# Altium schematic symbol library MCU_Module.SchLib: 52 symbols (part 2 of 3)
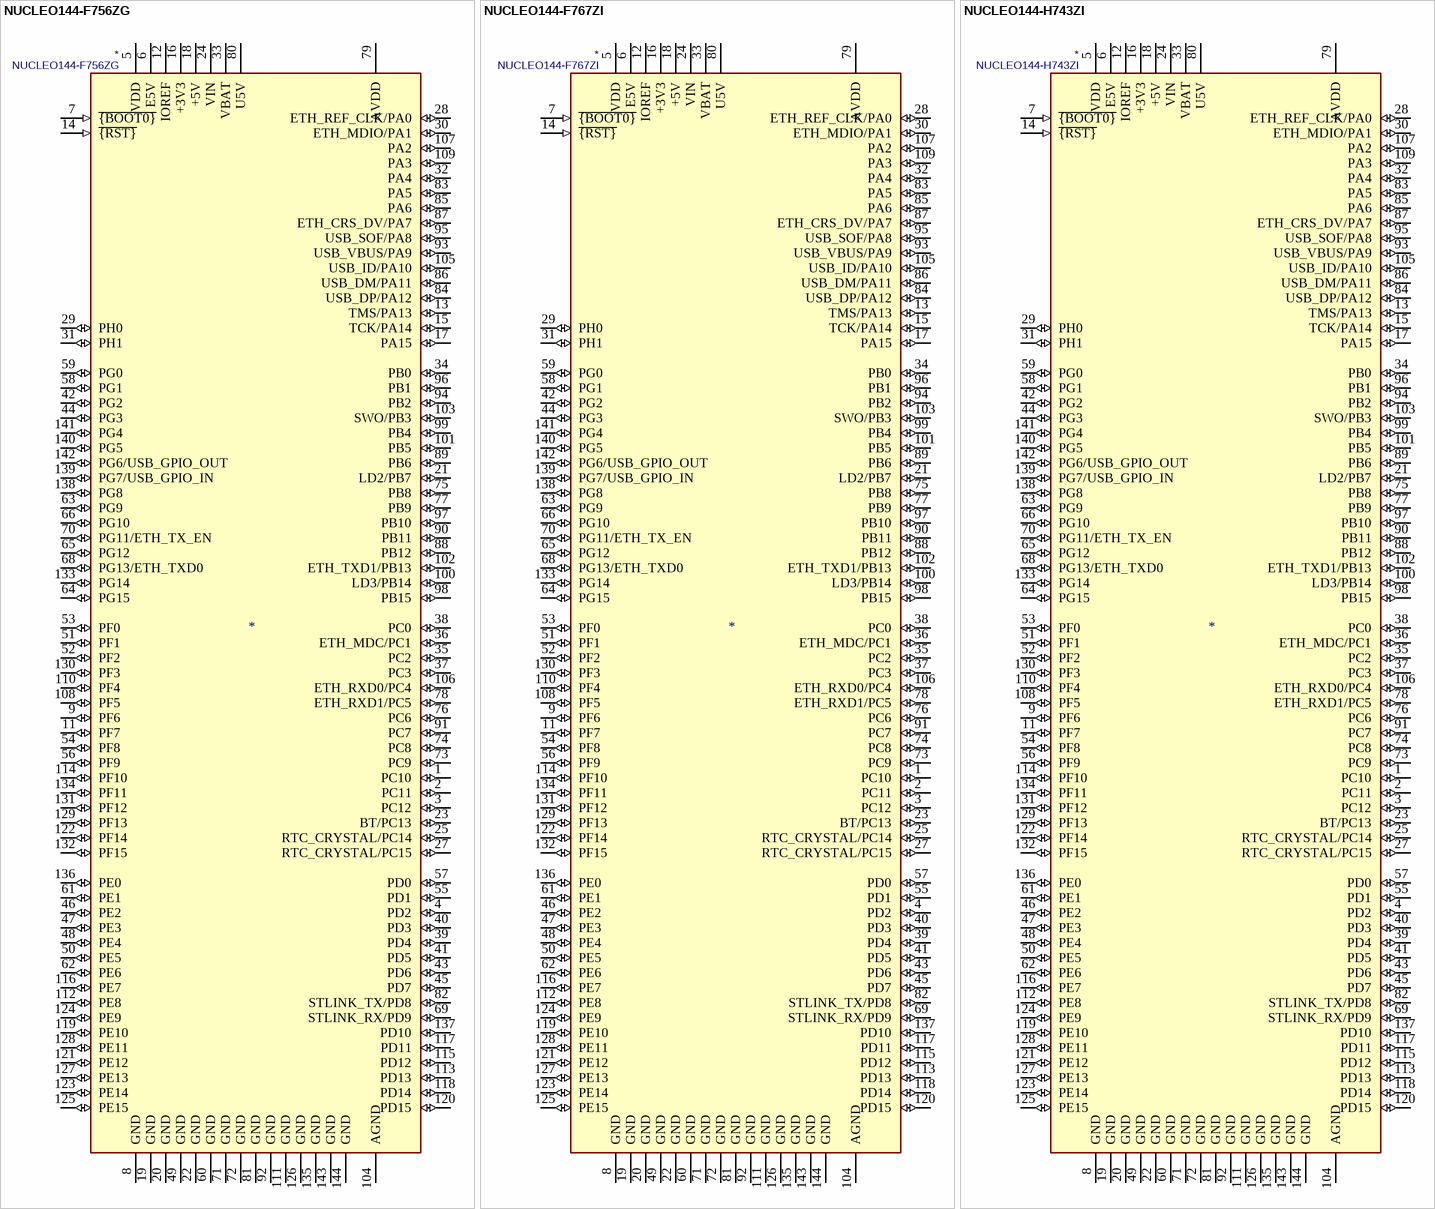
[diagram p10: symbols NUCLEO144-F756ZG to NUCLEO144-H743ZI]

## NUCLEO144-F767ZI
designator *  value NUCLEO144-F767ZI
ki_keywords: STM32 Nucleo ST; ki_description: Nucleo 144 Development Board with STM32F767ZIT6 MCU, 512kB RAM, 2Mb FLASH; ki_fp_filters: ST*Morpho*Connector*144*STLink*; Footprint: Module:ST_Morpho_Connector_144_STLink; Supplier: https://www.st.com/resource/en/user_manual/dm00244518-stm32-nucleo144-boards-stmicroelectronics.pdf
footprint ST_Morpho_Connector_144_STLink
pins: 1 PC10 (io), 2 PC11 (io), 3 PC12 (io), 4 PD2 (io), 5 VDD (power), 6 E5V (power), 7 ~{{BOOT0}} (in), 8 GND (power), 9 PF6 (io), 10 NC (in) hidden, 11 PF7 (io), 12 IOREF (power), 13 TMS/PA13 (io), 14 ~{{RST}} (in), 15 TCK/PA14 (io), 16 +3V3 (power), 17 PA15 (io), 18 +5V (power), 19 GND (power), 20 GND (power), 21 LD2/PB7 (io), 22 GND (power), 23 BT/PC13 (io), 24 VIN (power), 25 RTC_CRYSTAL/PC14 (io), 26 NC (in) hidden, 27 RTC_CRYSTAL/PC15 (io), 28 ETH_REF_CLK/PA0 (io), 29 PH0 (io), 30 ETH_MDIO/PA1 (io), 31 PH1 (io), 32 PA4 (io), 33 VBAT (power), 34 PB0 (io), 35 PC2 (io), 36 ETH_MDC/PC1 (io), 37 PC3 (io), 38 PC0 (io), 39 PD4 (io), 40 PD3 (io), 41 PD5 (io), 42 PG2 (io), 43 PD6 (io), 44 PG3 (io), 45 PD7 (io), 46 PE2 (io), 47 PE3 (io), 48 PE4 (io), 49 GND (power), 50 PE5 (io), 51 PF1 (io), 52 PF2 (io), 53 PF0 (io), 54 PF8 (io), 55 PD1 (io), 56 PF9 (io), 57 PD0 (io), 58 PG1 (io), 59 PG0 (io), 60 GND (power), 61 PE1 (io), 62 PE6 (io), 63 PG9 (io), 64 PG15 (io), 65 PG12 (io), 66 PG10 (io), 67 NC (in) hidden, 68 PG13/ETH_TXD0 (io), 69 STLINK_RX/PD9 (io), 70 PG11/ETH_TX_EN (io), 71 GND (power), 72 GND (power), 73 PC9 (io), 74 PC8 (io), 75 PB8 (io), 76 PC6 (io), 77 PB9 (io), 78 ETH_RXD1/PC5 (io), 79 AVDD (power), 80 U5V (power), 81 GND (power), 82 STLINK_TX/PD8 (io), 83 PA5 (io), 84 USB_DP/PA12 (io), 85 PA6 (io), 86 USB_DM/PA11 (io), 87 ETH_CRS_DV/PA7 (io), 88 PB12 (io), 89 PB6 (io), 90 PB11 (io), 91 PC7 (io), 92 GND (power), 93 USB_VBUS/PA9 (io), 94 PB2 (io), 95 USB_SOF/PA8 (io), 96 PB1 (io), 97 PB10 (io), 98 PB15 (io), 99 PB4 (io), 100 LD3/PB14 (io), 101 PB5 (io), 102 ETH_TXD1/PB13 (io), 103 SWO/PB3 (io), 104 AGND (power), 105 USB_ID/PA10 (io), 106 ETH_RXD0/PC4 (io), 107 PA2 (io), 108 PF5 (io), 109 PA3 (io), 110 PF4 (io), 111 GND (power), 112 PE8 (io), 113 PD13 (io), 114 PF10 (io), 115 PD12 (io), 116 PE7 (io), 117 PD11 (io), 118 PD14 (io), 119 PE10 (io), 120 PD15 (io), 121 PE12 (io), 122 PF14 (io), 123 PE14 (io), 124 PE9 (io), 125 PE15 (io), 126 GND (power), 127 PE13 (io), 128 PE11 (io), 129 PF13 (io), 130 PF3 (io), 131 PF12 (io), 132 PF15 (io), 133 PG14 (io), 134 PF11 (io), 135 GND (power), 136 PE0 (io), 137 PD10 (io), 138 PG8 (io), 139 PG7/USB_GPIO_IN (io), 140 PG5 (io), 141 PG4 (io), 142 PG6/USB_GPIO_OUT (io), 143 GND (power), 144 GND (power)

## NUCLEO144-H743ZI
designator *  value NUCLEO144-H743ZI
ki_keywords: STM32 Nucleo ST; ki_description: Nucleo 144 Development Board with STM32H743ZIT6 MCU, 1024kB RAM, 2Mb FLASH; ki_fp_filters: ST*Morpho*Connector*144*STLink*; Footprint: Module:ST_Morpho_Connector_144_STLink; Supplier: https://www.st.com/resource/en/user_manual/dm00244518-stm32-nucleo144-boards-stmicroelectronics.pdf
footprint ST_Morpho_Connector_144_STLink
pins: 1 PC10 (io), 2 PC11 (io), 3 PC12 (io), 4 PD2 (io), 5 VDD (power), 6 E5V (power), 7 ~{{BOOT0}} (in), 8 GND (power), 9 PF6 (io), 10 NC (in) hidden, 11 PF7 (io), 12 IOREF (power), 13 TMS/PA13 (io), 14 ~{{RST}} (in), 15 TCK/PA14 (io), 16 +3V3 (power), 17 PA15 (io), 18 +5V (power), 19 GND (power), 20 GND (power), 21 LD2/PB7 (io), 22 GND (power), 23 BT/PC13 (io), 24 VIN (power), 25 RTC_CRYSTAL/PC14 (io), 26 NC (in) hidden, 27 RTC_CRYSTAL/PC15 (io), 28 ETH_REF_CLK/PA0 (io), 29 PH0 (io), 30 ETH_MDIO/PA1 (io), 31 PH1 (io), 32 PA4 (io), 33 VBAT (power), 34 PB0 (io), 35 PC2 (io), 36 ETH_MDC/PC1 (io), 37 PC3 (io), 38 PC0 (io), 39 PD4 (io), 40 PD3 (io), 41 PD5 (io), 42 PG2 (io), 43 PD6 (io), 44 PG3 (io), 45 PD7 (io), 46 PE2 (io), 47 PE3 (io), 48 PE4 (io), 49 GND (power), 50 PE5 (io), 51 PF1 (io), 52 PF2 (io), 53 PF0 (io), 54 PF8 (io), 55 PD1 (io), 56 PF9 (io), 57 PD0 (io), 58 PG1 (io), 59 PG0 (io), 60 GND (power), 61 PE1 (io), 62 PE6 (io), 63 PG9 (io), 64 PG15 (io), 65 PG12 (io), 66 PG10 (io), 67 NC (in) hidden, 68 PG13/ETH_TXD0 (io), 69 STLINK_RX/PD9 (io), 70 PG11/ETH_TX_EN (io), 71 GND (power), 72 GND (power), 73 PC9 (io), 74 PC8 (io), 75 PB8 (io), 76 PC6 (io), 77 PB9 (io), 78 ETH_RXD1/PC5 (io), 79 AVDD (power), 80 U5V (power), 81 GND (power), 82 STLINK_TX/PD8 (io), 83 PA5 (io), 84 USB_DP/PA12 (io), 85 PA6 (io), 86 USB_DM/PA11 (io), 87 ETH_CRS_DV/PA7 (io), 88 PB12 (io), 89 PB6 (io), 90 PB11 (io), 91 PC7 (io), 92 GND (power), 93 USB_VBUS/PA9 (io), 94 PB2 (io), 95 USB_SOF/PA8 (io), 96 PB1 (io), 97 PB10 (io), 98 PB15 (io), 99 PB4 (io), 100 LD3/PB14 (io), 101 PB5 (io), 102 ETH_TXD1/PB13 (io), 103 SWO/PB3 (io), 104 AGND (power), 105 USB_ID/PA10 (io), 106 ETH_RXD0/PC4 (io), 107 PA2 (io), 108 PF5 (io), 109 PA3 (io), 110 PF4 (io), 111 GND (power), 112 PE8 (io), 113 PD13 (io), 114 PF10 (io), 115 PD12 (io), 116 PE7 (io), 117 PD11 (io), 118 PD14 (io), 119 PE10 (io), 120 PD15 (io), 121 PE12 (io), 122 PF14 (io), 123 PE14 (io), 124 PE9 (io), 125 PE15 (io), 126 GND (power), 127 PE13 (io), 128 PE11 (io), 129 PF13 (io), 130 PF3 (io), 131 PF12 (io), 132 PF15 (io), 133 PG14 (io), 134 PF11 (io), 135 GND (power), 136 PE0 (io), 137 PD10 (io), 138 PG8 (io), 139 PG7/USB_GPIO_IN (io), 140 PG5 (io), 141 PG4 (io), 142 PG6/USB_GPIO_OUT (io), 143 GND (power), 144 GND (power)

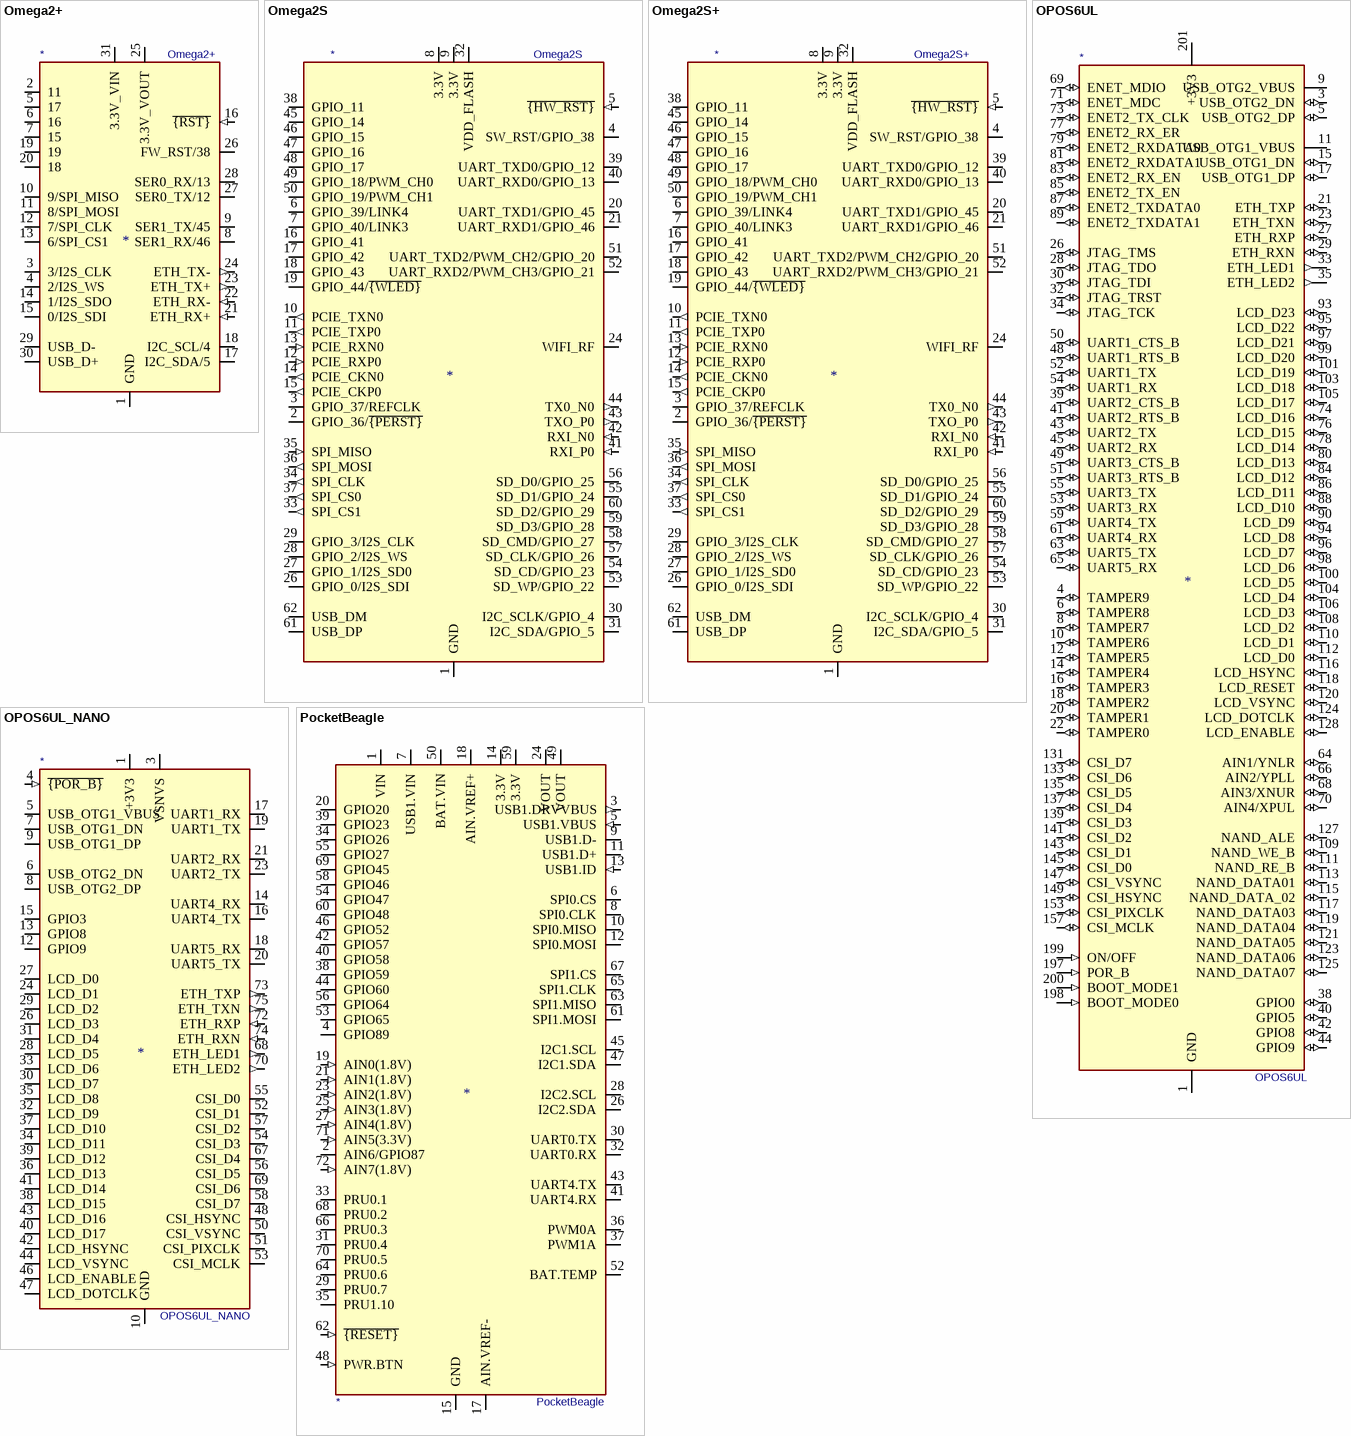
[diagram p6: symbols Omega2+ to PocketBeagle]

## Omega2+
designator *  value Omega2+
ki_keywords: onion omega module; ki_description: Iot Computer Module by Onion; ki_fp_filters: Onion*Omega2+*; Footprint: Module:Onion_Omega2+; Supplier: https://docs.onion.io/omega2-docs/omega2p.html
footprint Onion_Omega2+
pins: 1 GND (power), 2 11 (io), 3 3/I2S_CLK (io), 4 2/I2S_WS (io), 5 17 (io), 6 16 (io), 7 15 (io), 8 SER1_RX/46 (io), 9 SER1_TX/45 (io), 10 9/SPI_MISO (io), 11 8/SPI_MOSI (io), 12 7/SPI_CLK (io), 13 6/SPI_CS1 (io), 14 1/I2S_SDO (io), 15 0/I2S_SDI (io), 16 ~{{RST}} (in), 17 I2C_SDA/5 (io), 18 I2C_SCL/4 (io), 19 (io), 20 18 (io), 21 ETH_RX+ (in), 22 ETH_RX- (in), 23 ETH_TX+ (out), 24 ETH_TX- (out), 25 3.3V_VOUT (power), 26 FW_RST/38 (io), 27 SER0_TX/12 (io), 28 SER0_RX/13 (io), 29 USB_D- (io), 30 USB_D+ (io), 31 3.3V_VIN (power), 32 GND hidden

## Omega2S
designator *  value Omega2S
ki_keywords: onion omega module; ki_description: Iot Computer Module by Onion, 64MB RAM, 16MB FLASH; ki_fp_filters: Onion*Omega2S*; Footprint: Module:Onion_Omega2S; Supplier: https://github.com/OnionIoT/Omega2/raw/master/Documents/Omega2S%20Datasheet.pdf
footprint Onion_Omega2S
pins: 1 GND (power), 2 GPIO_36/~{{PERST}} (io), 3 GPIO_37/REFCLK (io), 4 SW_RST/GPIO_38 (io), 5 ~{{HW_RST}} (in), 6 GPIO_39/LINK4 (io), 7 GPIO_40/LINK3 (io), 8 3.3V (power), 9 3.3V (power), 10 PCIE_TXN0 (out), 11 PCIE_TXP0 (out), 12 PCIE_RXP0 (in), 13 PCIE_RXN0 (in), 14 PCIE_CKN0 (out), 15 PCIE_CKP0 (out), 16 GPIO_41 (io), 17 GPIO_42 (io), 18 GPIO_43 (io), 19 GPIO_44/~{{WLED}} (io), 20 UART_TXD1/GPIO_45 (io), 21 UART_RXD1/GPIO_46 (io), 22 GND hidden, 23 GND hidden, 24 WIFI_RF, 25 GND hidden, 26 GPIO_0/I2S_SDI (io), 27 GPIO_1/I2S_SD0 (io), 28 GPIO_2/I2S_WS (io), 29 GPIO_3/I2S_CLK (io), 30 I2C_SCLK/GPIO_4 (io), 31 I2C_SDA/GPIO_5 (io), 32 VDD_FLASH (power), 33 SPI_CS1 (out), 34 SPI_CLK (out), 35 SPI_MISO (in), 36 SPI_MOSI (out), 37 SPI_CS0 (out), 38 GPIO_11 (io), 39 UART_TXD0/GPIO_12 (io), 40 UART_RXD0/GPIO_13 (io), 41 RXI_P0 (in), 42 RXI_N0 (in), 43 TXO_P0 (out), 44 TX0_N0 (out), 45 GPIO_14 (io), 46 GPIO_15 (io), 47 GPIO_16 (io), 48 GPIO_17 (io), 49 GPIO_18/PWM_CH0 (io), 50 GPIO_19/PWM_CH1 (io), 51 UART_TXD2/PWM_CH2/GPIO_20 (io), 52 UART_RXD2/PWM_CH3/GPIO_21 (io), 53 SD_WP/GPIO_22 (io), 54 SD_CD/GPIO_23 (io), 55 SD_D1/GPIO_24 (io), 56 SD_D0/GPIO_25 (io), 57 SD_CLK/GPIO_26 (io), 58 SD_CMD/GPIO_27 (io), 59 SD_D3/GPIO_28 (io), 60 SD_D2/GPIO_29 (io), 61 USB_DP (io), 62 USB_DM (io), 63 GND hidden, 64 GND hidden

## Omega2S+
designator *  value Omega2S+
ki_keywords: onion omega module; ki_description: Iot Computer Module by Onion, 128MB RAM, 32MB FLASH; ki_fp_filters: Onion*Omega2S*; Footprint: Module:Onion_Omega2S; Supplier: https://github.com/OnionIoT/Omega2/raw/master/Documents/Omega2S%20Datasheet.pdf
footprint Onion_Omega2S
pins: 1 GND (power), 2 GPIO_36/~{{PERST}} (io), 3 GPIO_37/REFCLK (io), 4 SW_RST/GPIO_38 (io), 5 ~{{HW_RST}} (in), 6 GPIO_39/LINK4 (io), 7 GPIO_40/LINK3 (io), 8 3.3V (power), 9 3.3V (power), 10 PCIE_TXN0 (out), 11 PCIE_TXP0 (out), 12 PCIE_RXP0 (in), 13 PCIE_RXN0 (in), 14 PCIE_CKN0 (out), 15 PCIE_CKP0 (out), 16 GPIO_41 (io), 17 GPIO_42 (io), 18 GPIO_43 (io), 19 GPIO_44/~{{WLED}} (io), 20 UART_TXD1/GPIO_45 (io), 21 UART_RXD1/GPIO_46 (io), 22 GND hidden, 23 GND hidden, 24 WIFI_RF, 25 GND hidden, 26 GPIO_0/I2S_SDI (io), 27 GPIO_1/I2S_SD0 (io), 28 GPIO_2/I2S_WS (io), 29 GPIO_3/I2S_CLK (io), 30 I2C_SCLK/GPIO_4 (io), 31 I2C_SDA/GPIO_5 (io), 32 VDD_FLASH (power), 33 SPI_CS1 (out), 34 SPI_CLK (out), 35 SPI_MISO (in), 36 SPI_MOSI (out), 37 SPI_CS0 (out), 38 GPIO_11 (io), 39 UART_TXD0/GPIO_12 (io), 40 UART_RXD0/GPIO_13 (io), 41 RXI_P0 (in), 42 RXI_N0 (in), 43 TXO_P0 (out), 44 TX0_N0 (out), 45 GPIO_14 (io), 46 GPIO_15 (io), 47 GPIO_16 (io), 48 GPIO_17 (io), 49 GPIO_18/PWM_CH0 (io), 50 GPIO_19/PWM_CH1 (io), 51 UART_TXD2/PWM_CH2/GPIO_20 (io), 52 UART_RXD2/PWM_CH3/GPIO_21 (io), 53 SD_WP/GPIO_22 (io), 54 SD_CD/GPIO_23 (io), 55 SD_D1/GPIO_24 (io), 56 SD_D0/GPIO_25 (io), 57 SD_CLK/GPIO_26 (io), 58 SD_CMD/GPIO_27 (io), 59 SD_D3/GPIO_28 (io), 60 SD_D2/GPIO_29 (io), 61 USB_DP (io), 62 USB_DM (io), 63 GND hidden, 64 GND hidden

## OPOS6UL
designator *  value OPOS6UL
ki_keywords: armadeus systems opos6ul sbc som compute module; ki_description: Armadeus Systems i.MX6UL based single board computer, SODIMM; ki_fp_filters: *SODIMM*; Supplier: http://www.opossom.com/_downloads/opos6ul/documentation/datasheet_opos6ul.pdf
pins: 1 GND (power), 2 GND hidden, 3 USB_OTG2_DN (io), 4 TAMPER9 (io), 5 USB_OTG2_DP (io), 6 TAMPER8 (io), 7 GND hidden, 8 TAMPER7 (io), 9 USB_OTG2_VBUS (power), 10 TAMPER6 (io), 11 USB_OTG1_VBUS (power), 12 TAMPER5 (io), 13 GND hidden, 14 TAMPER4 (io), 15 USB_OTG1_DN (io), 16 TAMPER3 (io), 17 USB_OTG1_DP (io), 18 TAMPER2 (io), 19 GND hidden, 20 TAMPER1 (io), 21 ETH_TXP (io), 22 TAMPER0 (io), 23 ETH_TXN (io), 24 GND hidden, 25 GND hidden, 26 JTAG_TMS (io), 27 ETH_RXP (io), 28 JTAG_TDO (io), 29 ETH_RXN (io), 30 JTAG_TDI (io), 31 GND hidden, 32 JTAG_TRST (io), 33 ETH_LED1 (out), 34 JTAG_TCK (io), 35 ETH_LED2 (out), 36 GND hidden, 37 GND hidden, 38 GPIO0 (io), 39 UART2_CTS_B (io), 40 GPIO5 (io), 41 UART2_RTS_B (io), 42 GPIO8 (io), 43 UART2_TX (io), 44 GPIO9 (io), 45 UART2_RX (io), 46 GND hidden, 47 GND hidden, 48 UART1_RTS_B (io), 49 UART3_CTS_B (io), 50 UART1_CTS_B (io), 51 UART3_RTS_B (io), 52 UART1_TX (io), 53 UART3_RX (io), 54 UART1_RX (io), 55 UART3_TX (io), 56 GND hidden, 57 GND hidden, 58 NC (in) hidden, 59 UART4_TX (io), 60 NC (in) hidden, 61 UART4_RX (io), 62 GND hidden, 63 UART5_TX (io), 64 AIN1/YNLR (io), 65 UART5_RX (io), 66 AIN2/YPLL (io), 67 GND hidden, 68 AIN3/XNUR (io), 69 ENET_MDIO (io), 70 AIN4/XPUL (io), 71 ENET_MDC (io), 72 GND hidden, 73 ENET2_TX_CLK (io), 74 LCD_D16 (io), 75 GND hidden, 76 LCD_D15 (io), 77 ENET2_RX_ER (io), 78 LCD_D14 (io), 79 ENET2_RXDATA0 (io), 80 LCD_D13 (io), 81 ENET2_RXDATA1 (io), 82 GND hidden, 83 ENET2_RX_EN (io), 84 LCD_D12 (io), 85 ENET2_TX_EN (io), 86 LCD_D11 (io), 87 ENET2_TXDATA0 (io), 88 LCD_D10 (io), 89 ENET2_TXDATA1 (io), 90 LCD_D9 (io), 91 GND hidden, 92 GND hidden, 93 LCD_D23 (io), 94 LCD_D8 (io), 95 LCD_D22 (io), 96 LCD_D7 (io), 97 LCD_D21 (io), 98 LCD_D6 (io), 99 LCD_D20 (io), 100 LCD_D5 (io), 101 LCD_D19 (io), 102 GND hidden, 103 LCD_D18 (io), 104 LCD_D4 (io), 105 LCD_D17 (io), 106 LCD_D3 (io), 107 GND hidden, 108 LCD_D2 (io), 109 NAND_WE_B (io), 110 LCD_D1 (io), 111 NAND_RE_B (io), 112 LCD_D0 (io), 113 NAND_DATA01 (io), 114 GND hidden, 115 NAND_DATA_02 (io), 116 LCD_HSYNC (io), 117 NAND_DATA03 (io), 118 LCD_RESET (io), 119 NAND_DATA04 (io), 120 LCD_VSYNC (io), 121 NAND_DATA05 (io), 122 GND hidden, 123 NAND_DATA06 (io), 124 LCD_DOTCLK (io), 125 NAND_DATA07 (io), 126 GND hidden, 127 NAND_ALE (io), 128 LCD_ENABLE (io), 129 GND hidden, 130 NC (in) hidden, 131 CSI_D7 (io), 132 NC (in) hidden, 133 CSI_D6 (io), 134 NC (in) hidden, 135 CSI_D5 (io), 136 NC (in) hidden, 137 CSI_D4 (io), 138 NC (in) hidden, 139 CSI_D3 (io), 140 NC (in) hidden, 141 CSI_D2 (io), 142 NC (in) hidden, 143 CSI_D1 (io), 144 NC (in) hidden, 145 CSI_D0 (io), 146 NC (in) hidden, 147 CSI_VSYNC (io), 148 NC (in) hidden, 149 CSI_HSYNC (io), 150 NC (in) hidden, 151 GND hidden, 152 NC (in) hidden, 153 CSI_PIXCLK (io), 154 NC (in) hidden, 155 GND hidden, 156 NC (in) hidden, 157 CSI_MCLK (io), 158 NC (in) hidden, 159 GND hidden, 160 NC (in) hidden, 161 NC (in) hidden, 162 NC (in) hidden, 163 NC (in) hidden, 164 NC (in) hidden, 165 NC (in) hidden, 166 NC (in) hidden, 167 NC (in) hidden, 168 NC (in) hidden, 169 NC (in) hidden, 170 NC (in) hidden, 171 NC (in) hidden, 172 NC (in) hidden, 173 NC (in) hidden, 174 NC (in) hidden, 175 NC (in) hidden, 176 NC (in) hidden, 177 NC (in) hidden, 178 NC (in) hidden, 179 NC (in) hidden, 180 NC (in) hidden, 181 NC (in) hidden, 182 NC (in) hidden, 183 NC (in) hidden, 184 NC (in) hidden, 185 NC (in) hidden, 186 NC (in) hidden, 187 NC (in) hidden, 188 NC (in) hidden, 189 NC (in) hidden, 190 NC (in) hidden, 191 NC (in) hidden, 192 NC (in) hidden, 193 NC (in) hidden, 194 NC (in) hidden, 195 NC (in) hidden, 196 NC (in) hidden, 197 POR_B (in), 198 BOOT_MODE0 (in), 199 ON/OFF (in), 200 BOOT_MODE1 (in), 201 +3V3 (power), 202 +3V3 hidden, 203 +3V3 hidden, 204 +3V3 hidden

## OPOS6UL_NANO
designator *  value OPOS6UL_NANO
ki_keywords: opos6ul compute module; ki_description: NXP i.MX6ULL/i.MX6UL, 256 or 512 MB RAM, industrial SoM computer, M.2M (NGFF); ki_fp_filters: *M.2*; Supplier: http://www.opossom.com/_downloads/opos6ul_nano/datasheet_opos6ul_nano.pdf
pins: 1 +3V3 (power), 2 +3V3 hidden, 3 VSNVS (power), 4 ~{{POR_B}} (in), 5 USB_OTG1_VBUS (power), 6 USB_OTG2_DN (io), 7 USB_OTG1_DN (io), 8 USB_OTG2_DP (io), 9 USB_OTG1_DP (io), 10 GND (power), 11 GND hidden, 12 GPIO9 (io), 13 GPIO8 (io), 14 UART4_RX (io), 15 GPIO3 (io), 16 UART4_TX (io), 17 UART1_RX (io), 18 UART5_RX (io), 19 UART1_TX (io), 20 UART5_TX (io), 21 UART2_RX (io), 22 GND hidden, 23 UART2_TX (io), 24 LCD_D1 (io), 25 GND hidden, 26 LCD_D3 (io), 27 LCD_D0 (io), 28 LCD_D5 (io), 29 LCD_D2 (io), 30 LCD_D7 (io), 31 LCD_D4 (io), 32 LCD_D9 (io), 33 LCD_D6 (io), 34 LCD_D11 (io), 35 LCD_D8 (io), 36 LCD_D13 (io), 37 LCD_D10 (io), 38 LCD_D15 (io), 39 LCD_D12 (io), 40 LCD_D17 (io), 41 LCD_D14 (io), 42 LCD_HSYNC (io), 43 LCD_D16 (io), 44 LCD_VSYNC (io), 45 GND hidden, 46 LCD_ENABLE (io), 47 LCD_DOTCLK (io), 48 CSI_HSYNC (io), 49 GND hidden, 50 CSI_VSYNC (io), 51 CSI_PIXCLK (io), 52 CSI_D1 (io), 53 CSI_MCLK (io), 54 CSI_D3 (io), 55 CSI_D0 (io), 56 CSI_D5 (io), 57 CSI_D2 (io), 58 CSI_D7 (io), 67 CSI_D4 (io), 68 ETH_LED1 (out), 69 CSI_D6 (io), 70 ETH_LED2 (out), 71 GND hidden, 72 ETH_RXP (in), 73 ETH_TXP (out), 74 ETH_RXN (in), 75 ETH_TXN (out)

## PocketBeagle
designator *  value PocketBeagle
ki_keywords: beagleboard pocketbeagle; ki_description: Singleboard computer with ARM Cortex-A8 1GHz, 512MB RAM; ki_fp_filters: BeagleBoard*PocketBeagle*; Footprint: Module:BeagleBoard_PocketBeagle; Supplier: https://github.com/beagleboard/pocketbeagle/wiki/System-Reference-Manual
footprint BeagleBoard_PocketBeagle
pins: 1 VIN (power), 2 AIN6/GPIO87 (io), 3 USB1.DRVVBUS (out), 4 GPIO89 (io), 5 USB1.VBUS (in), 6 SPI0.CS (io), 7 USB1.VIN (power), 8 SPI0.CLK (io), 9 USB1.D- (io), 10 SPI0.MISO (io), 11 USB1.D+ (io), 12 SPI0.MOSI (io), 13 USB1.ID (in), 14 3.3V (power), 15 GND (power), 16 GND hidden, 17 AIN.VREF- (power), 18 AIN.VREF+ (power), 19 AIN0(1.8V) (in), 20 GPIO20 (io), 21 AIN1(1.8V) (in), 22 GND hidden, 23 AIN2(1.8V) (in), 24 VOUT (power), 25 AIN3(1.8V) (in), 26 I2C2.SDA (io), 27 AIN4(1.8V) (in), 28 I2C2.SCL (io), 29 PRU0.7 (io), 30 UART0.TX (io), 31 PRU0.4 (io), 32 UART0.RX (io), 33 PRU0.1 (io), 34 GPIO26 (io), 35 PRU1.10 (io), 36 PWM0A (io), 37 PWM1A (io), 38 GPIO59 (io), 39 GPIO23 (io), 40 GPIO58 (io), 41 UART4.RX (io), 42 GPIO57 (io), 43 UART4.TX (io), 44 GPIO60 (io), 45 I2C1.SCL (io), 46 GPIO52 (io), 47 I2C1.SDA (io), 48 PWR.BTN (in), 49 VOUT (power), 50 BAT.VIN (power), 51 GND hidden, 52 BAT.TEMP, 53 GPIO65 (io), 54 GPIO47 (io), 55 GPIO27 (io), 56 GPIO64 (io), 57 GND hidden, 58 GPIO46 (io), 59 3.3V (power), 60 GPIO48 (io), 61 SPI1.MOSI (io), 62 ~{{RESET}} (in), 63 SPI1.MISO (io), 64 PRU0.6 (io), 65 SPI1.CLK (io), 66 PRU0.3 (io), 67 SPI1.CS (io), 68 PRU0.2 (io), 69 GPIO45 (io), 70 PRU0.5 (io), 71 AIN5(3.3V) (in), 72 AIN7(1.8V) (in)

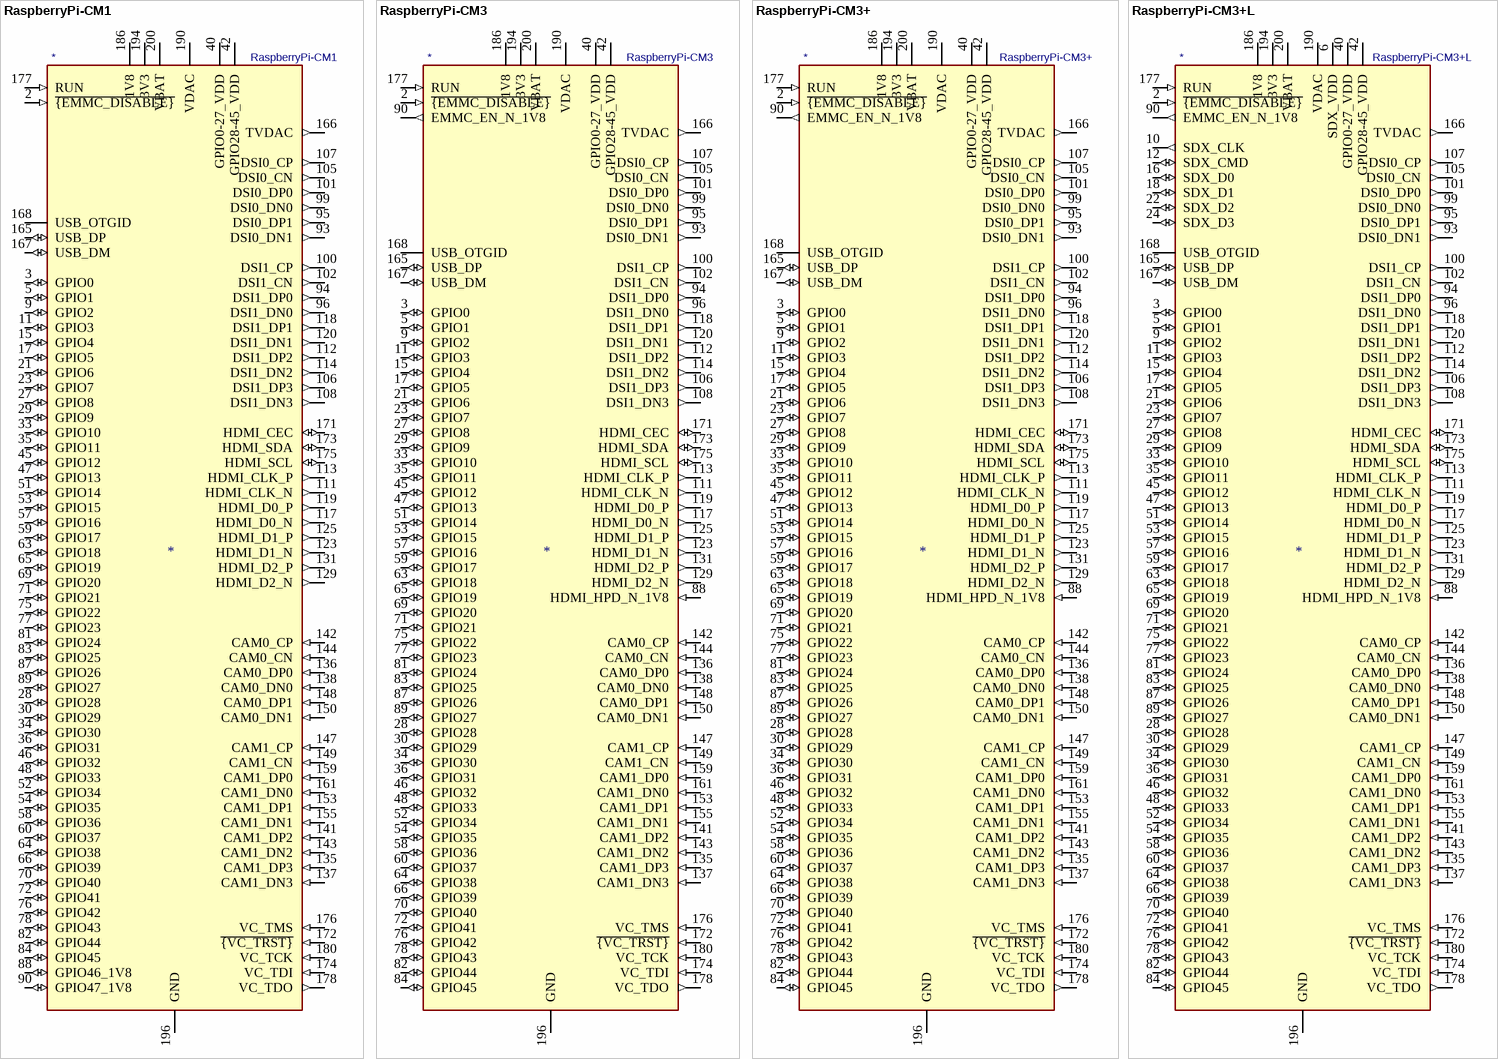
[diagram p7: symbols RaspberryPi-CM1 to RaspberryPi-CM3+L]

## RaspberryPi-CM1
designator *  value RaspberryPi-CM1
ki_keywords: raspberry pi compute module; ki_description: BCM2835 Broadcom 700 MZ single core, 512 MB RAM 4 GB eMMC, industrial SoM computer; ki_fp_filters: *SODIMM*; Supplier: https://www.raspberrypi.org/documentation/hardware/computemodule/datasheets/rpi_DATA_CM_1p0.pdf
pins: 1 GND hidden, 2 ~{{EMMC_DISABLE}} (in), 3 GPIO0 (io), 4 NC (in) hidden, 5 GPIO1 (io), 6 NC (in) hidden, 7 GND hidden, 8 NC (in) hidden, 9 GPIO2 (io), 10 NC (in) hidden, 11 GPIO3 (io), 12 NC (in) hidden, 13 GND hidden, 14 NC (in) hidden, 15 GPIO4 (io), 16 NC (in) hidden, 17 GPIO5 (io), 18 NC (in) hidden, 19 GND hidden, 20 NC (in) hidden, 21 GPIO6 (io), 22 NC (in) hidden, 23 GPIO7 (io), 24 NC (in) hidden, 25 GND hidden, 26 GND hidden, 27 GPIO8 (io), 28 GPIO28 (io), 29 GPIO9 (io), 30 GPIO29 (io), 31 GND hidden, 32 GND hidden, 33 GPIO10 (io), 34 GPIO30 (io), 35 GPIO11 (io), 36 GPIO31 (io), 37 GND hidden, 38 GND hidden, 39 GPIO0-27_VDD hidden, 40 GPIO0-27_VDD (power), 41 GPIO28-45_VDD hidden, 42 GPIO28-45_VDD (power), 43 GND hidden, 44 GND hidden, 45 GPIO12 (io), 46 GPIO32 (io), 47 GPIO13 (io), 48 GPIO33 (io), 49 GND hidden, 50 GND hidden, 51 GPIO14 (io), 52 GPIO34 (io), 53 GPIO15 (io), 54 GPIO35 (io), 55 GND hidden, 56 GND hidden, 57 GPIO16 (io), 58 GPIO36 (io), 59 GPIO17 (io), 60 GPIO37 (io), 61 GND hidden, 62 GND hidden, 63 GPIO18 (io), 64 GPIO38 (io), 65 GPIO19 (io), 66 GPIO39 (io), 67 GND hidden, 68 GND hidden, 69 GPIO20 (io), 70 GPIO40 (io), 71 GPIO21 (io), 72 GPIO41 (io), 73 GND hidden, 74 GND hidden, 75 GPIO22 (io), 76 GPIO42 (io), 77 GPIO23 (io), 78 GPIO43 (io), 79 GND hidden, 80 GND hidden, 81 GPIO24 (io), 82 GPIO44 (io), 83 GPIO25 (io), 84 GPIO45 (io), 85 GND hidden, 86 GND hidden, 87 GPIO26 (io), 88 GPIO46_1V8 (io), 89 GPIO27 (io), 90 GPIO47_1V8 (io), 91 GND hidden, 92 GND hidden, 93 DSI0_DN1 (out), 94 DSI1_DP0 (out), 95 DSI0_DP1 (out), 96 DSI1_DN0 (out), 97 GND hidden, 98 GND hidden, 99 DSI0_DN0 (out), 100 DSI1_CP (out), 101 DSI0_DP0 (out), 102 DSI1_CN (out), 103 GND hidden, 104 GND hidden, 105 DSI0_CN (out), 106 DSI1_DP3 (out), 107 DSI0_CP (out), 108 DSI1_DN3 (out), 109 GND hidden, 110 GND hidden, 111 HDMI_CLK_N (out), 112 DSI1_DP2 (out), 113 HDMI_CLK_P (out), 114 DSI1_DN2 (out), 115 GND hidden, 116 GND hidden, 117 HDMI_D0_N (out), 118 DSI1_DP1 (out), 119 HDMI_D0_P (out), 120 DSI1_DN1 (out), 121 GND hidden, 122 GND hidden, 123 HDMI_D1_N (out), 124 NC (in) hidden, 125 HDMI_D1_P (out), 126 NC (in) hidden, 127 GND hidden, 128 NC (in) hidden, 129 HDMI_D2_N (out), 130 NC (in) hidden, 131 HDMI_D2_P (out), 132 NC (in) hidden, 133 GND hidden, 134 GND hidden, 135 CAM1_DP3 (in), 136 CAM0_DP0 (in), 137 CAM1_DN3 (in), 138 CAM0_DN0 (in), 139 GND hidden, 140 GND hidden, 141 CAM1_DP2 (in), 142 CAM0_CP (in), 143 CAM1_DN2 (in), 144 CAM0_CN (in), 145 GND hidden, 146 GND hidden, 147 CAM1_CP (in), 148 CAM0_DP1 (in), 149 CAM1_CN (in), 150 CAM0_DN1 (in), 151 GND hidden, 152 GND hidden, 153 CAM1_DP1 (in), 154 NC (in) hidden, 155 CAM1_DN1 (in), 156 NC (in) hidden, 157 GND hidden, 158 NC (in) hidden, 159 CAM1_DP0 (in), 160 NC (in) hidden, 161 CAM1_DN0 (in), 162 NC (in) hidden, 163 GND hidden, 164 GND hidden, 165 USB_DP (io), 166 TVDAC (out), 167 USB_DM (io), 168 USB_OTGID, 169 GND hidden, 170 GND hidden, 171 HDMI_CEC (io), 172 ~{{VC_TRST}} (in), 173 HDMI_SDA (io), 174 VC_TDI (in), 175 HDMI_SCL (io), 176 VC_TMS (in), 177 RUN (in), 178 VC_TDO (out), 179 VDD_CORE_(DO_NOT_CONNECT) (in) hidden, 180 VC_TCK (in), 181 GND hidden, 182 GND hidden, 183 1V8 hidden, 184 1V8 hidden, 185 1V8 hidden, 186 1V8 (power), 187 GND hidden, 188 GND hidden, 189 VDAC hidden, 190 VDAC (power), 191 3V3 hidden, 192 3V3 hidden, 193 3V3 hidden, 194 3V3 (power), 195 GND hidden, 196 GND (power), 197 VBAT hidden, 198 VBAT hidden, 199 VBAT hidden, 200 VBAT (power)

## RaspberryPi-CM3
designator *  value RaspberryPi-CM3
ki_keywords: raspberry pi compute module; ki_description: BCM2837 Broadcom 1.2 GHZ quad core, 1 GB RAM 4 GB eMMC,  industrial SoM computer; ki_fp_filters: *SODIMM*; Supplier: https://www.raspberrypi.org/documentation/hardware/computemodule/datasheets/rpi_DATA_CM_1p0.pdf
pins: 1 GND hidden, 2 ~{{EMMC_DISABLE}} (in), 3 GPIO0 (io), 4 NC (in) hidden, 5 GPIO1 (io), 6 NC (in) hidden, 7 GND hidden, 8 GND hidden, 9 GPIO2 (io), 10 NC (in) hidden, 11 GPIO3 (io), 12 NC (in) hidden, 13 GND hidden, 14 GND hidden, 15 GPIO4 (io), 16 NC (in) hidden, 17 GPIO5 (io), 18 NC (in) hidden, 19 GND hidden, 20 GND hidden, 21 GPIO6 (io), 22 NC (in) hidden, 23 GPIO7 (io), 24 NC (in) hidden, 25 GND hidden, 26 GND hidden, 27 GPIO8 (io), 28 GPIO28 (io), 29 GPIO9 (io), 30 GPIO29 (io), 31 GND hidden, 32 GND hidden, 33 GPIO10 (io), 34 GPIO30 (io), 35 GPIO11 (io), 36 GPIO31 (io), 37 GND hidden, 38 GND hidden, 39 GPIO0-27_VDD hidden, 40 GPIO0-27_VDD (power), 41 GPIO28-45_VDD hidden, 42 GPIO28-45_VDD (power), 43 GND hidden, 44 GND hidden, 45 GPIO12 (io), 46 GPIO32 (io), 47 GPIO13 (io), 48 GPIO33 (io), 49 GND hidden, 50 GND hidden, 51 GPIO14 (io), 52 GPIO34 (io), 53 GPIO15 (io), 54 GPIO35 (io), 55 GND hidden, 56 GND hidden, 57 GPIO16 (io), 58 GPIO36 (io), 59 GPIO17 (io), 60 GPIO37 (io), 61 GND hidden, 62 GND hidden, 63 GPIO18 (io), 64 GPIO38 (io), 65 GPIO19 (io), 66 GPIO39 (io), 67 GND hidden, 68 GND hidden, 69 GPIO20 (io), 70 GPIO40 (io), 71 GPIO21 (io), 72 GPIO41 (io), 73 GND hidden, 74 GND hidden, 75 GPIO22 (io), 76 GPIO42 (io), 77 GPIO23 (io), 78 GPIO43 (io), 79 GND hidden, 80 GND hidden, 81 GPIO24 (io), 82 GPIO44 (io), 83 GPIO25 (io), 84 GPIO45 (io), 85 GND hidden, 86 GND hidden, 87 GPIO26 (io), 88 HDMI_HPD_N_1V8 (in), 89 GPIO27 (io), 90 EMMC_EN_N_1V8 (out), 91 GND hidden, 92 GND hidden, 93 DSI0_DN1 (out), 94 DSI1_DP0 (out), 95 DSI0_DP1 (out), 96 DSI1_DN0 (out), 97 GND hidden, 98 GND hidden, 99 DSI0_DN0 (out), 100 DSI1_CP (out), 101 DSI0_DP0 (out), 102 DSI1_CN (out), 103 GND hidden, 104 GND hidden, 105 DSI0_CN (out), 106 DSI1_DP3 (out), 107 DSI0_CP (out), 108 DSI1_DN3 (out), 109 GND hidden, 110 GND hidden, 111 HDMI_CLK_N (out), 112 DSI1_DP2 (out), 113 HDMI_CLK_P (out), 114 DSI1_DN2 (out), 115 GND hidden, 116 GND hidden, 117 HDMI_D0_N (out), 118 DSI1_DP1 (out), 119 HDMI_D0_P (out), 120 DSI1_DN1 (out), 121 GND hidden, 122 GND hidden, 123 HDMI_D1_N (out), 124 NC (in) hidden, 125 HDMI_D1_P (out), 126 NC (in) hidden, 127 GND hidden, 128 NC (in) hidden, 129 HDMI_D2_N (out), 130 NC (in) hidden, 131 HDMI_D2_P (out), 132 NC (in) hidden, 133 GND hidden, 134 GND hidden, 135 CAM1_DP3 (in), 136 CAM0_DP0 (in), 137 CAM1_DN3 (in), 138 CAM0_DN0 (in), 139 GND hidden, 140 GND hidden, 141 CAM1_DP2 (in), 142 CAM0_CP (in), 143 CAM1_DN2 (in), 144 CAM0_CN (in), 145 GND hidden, 146 GND hidden, 147 CAM1_CP (in), 148 CAM0_DP1 (in), 149 CAM1_CN (in), 150 CAM0_DN1 (in), 151 GND hidden, 152 GND hidden, 153 CAM1_DP1 (in), 154 NC (in) hidden, 155 CAM1_DN1 (in), 156 NC (in) hidden, 157 GND hidden, 158 NC (in) hidden, 159 CAM1_DP0 (in), 160 NC (in) hidden, 161 CAM1_DN0 (in), 162 NC (in) hidden, 163 GND hidden, 164 GND hidden, 165 USB_DP (io), 166 TVDAC (out), 167 USB_DM (io), 168 USB_OTGID, 169 GND hidden, 170 GND hidden, 171 HDMI_CEC (io), 172 ~{{VC_TRST}} (in), 173 HDMI_SDA (io), 174 VC_TDI (in), 175 HDMI_SCL (io), 176 VC_TMS (in), 177 RUN (in), 178 VC_TDO (out), 179 VDD_CORE_(DO_NOT_CONNECT) (in) hidden, 180 VC_TCK (in), 181 GND hidden, 182 GND hidden, 183 1V8 hidden, 184 1V8 hidden, 185 1V8 hidden, 186 1V8 (power), 187 GND hidden, 188 GND hidden, 189 VDAC hidden, 190 VDAC (power), 191 3V3 hidden, 192 3V3 hidden, 193 3V3 hidden, 194 3V3 (power), 195 GND hidden, 196 GND (power), 197 VBAT hidden, 198 VBAT hidden, 199 VBAT hidden, 200 VBAT (power)

## RaspberryPi-CM3+
designator *  value RaspberryPi-CM3+
ki_keywords: raspberry pi compute module; ki_description: BCM2837B0 Broadcom 1.2 GHZ quad core, 1 GB RAM 8/16/32 GB eMMC, industrial SoM computer; ki_fp_filters: *SODIMM*; Supplier: https://www.raspberrypi.org/documentation/hardware/computemodule/datasheets/rpi_DATA_CM3plus_1p0.pdf
pins: 1 GND hidden, 2 ~{{EMMC_DISABLE}} (in), 3 GPIO0 (io), 4 NC (in) hidden, 5 GPIO1 (io), 6 NC (in) hidden, 7 GND hidden, 8 GND hidden, 9 GPIO2 (io), 10 NC (in) hidden, 11 GPIO3 (io), 12 NC (in) hidden, 13 GND hidden, 14 GND hidden, 15 GPIO4 (io), 16 NC (in) hidden, 17 GPIO5 (io), 18 NC (in) hidden, 19 GND hidden, 20 GND hidden, 21 GPIO6 (io), 22 NC (in) hidden, 23 GPIO7 (io), 24 NC (in) hidden, 25 GND hidden, 26 GND hidden, 27 GPIO8 (io), 28 GPIO28 (io), 29 GPIO9 (io), 30 GPIO29 (io), 31 GND hidden, 32 GND hidden, 33 GPIO10 (io), 34 GPIO30 (io), 35 GPIO11 (io), 36 GPIO31 (io), 37 GND hidden, 38 GND hidden, 39 GPIO0-27_VDD hidden, 40 GPIO0-27_VDD (power), 41 GPIO28-45_VDD hidden, 42 GPIO28-45_VDD (power), 43 GND hidden, 44 GND hidden, 45 GPIO12 (io), 46 GPIO32 (io), 47 GPIO13 (io), 48 GPIO33 (io), 49 GND hidden, 50 GND hidden, 51 GPIO14 (io), 52 GPIO34 (io), 53 GPIO15 (io), 54 GPIO35 (io), 55 GND hidden, 56 GND hidden, 57 GPIO16 (io), 58 GPIO36 (io), 59 GPIO17 (io), 60 GPIO37 (io), 61 GND hidden, 62 GND hidden, 63 GPIO18 (io), 64 GPIO38 (io), 65 GPIO19 (io), 66 GPIO39 (io), 67 GND hidden, 68 GND hidden, 69 GPIO20 (io), 70 GPIO40 (io), 71 GPIO21 (io), 72 GPIO41 (io), 73 GND hidden, 74 GND hidden, 75 GPIO22 (io), 76 GPIO42 (io), 77 GPIO23 (io), 78 GPIO43 (io), 79 GND hidden, 80 GND hidden, 81 GPIO24 (io), 82 GPIO44 (io), 83 GPIO25 (io), 84 GPIO45 (io), 85 GND hidden, 86 GND hidden, 87 GPIO26 (io), 88 HDMI_HPD_N_1V8 (in), 89 GPIO27 (io), 90 EMMC_EN_N_1V8 (out), 91 GND hidden, 92 GND hidden, 93 DSI0_DN1 (out), 94 DSI1_DP0 (out), 95 DSI0_DP1 (out), 96 DSI1_DN0 (out), 97 GND hidden, 98 GND hidden, 99 DSI0_DN0 (out), 100 DSI1_CP (out), 101 DSI0_DP0 (out), 102 DSI1_CN (out), 103 GND hidden, 104 GND hidden, 105 DSI0_CN (out), 106 DSI1_DP3 (out), 107 DSI0_CP (out), 108 DSI1_DN3 (out), 109 GND hidden, 110 GND hidden, 111 HDMI_CLK_N (out), 112 DSI1_DP2 (out), 113 HDMI_CLK_P (out), 114 DSI1_DN2 (out), 115 GND hidden, 116 GND hidden, 117 HDMI_D0_N (out), 118 DSI1_DP1 (out), 119 HDMI_D0_P (out), 120 DSI1_DN1 (out), 121 GND hidden, 122 GND hidden, 123 HDMI_D1_N (out), 124 NC (in) hidden, 125 HDMI_D1_P (out), 126 NC (in) hidden, 127 GND hidden, 128 NC (in) hidden, 129 HDMI_D2_N (out), 130 NC (in) hidden, 131 HDMI_D2_P (out), 132 NC (in) hidden, 133 GND hidden, 134 GND hidden, 135 CAM1_DP3 (in), 136 CAM0_DP0 (in), 137 CAM1_DN3 (in), 138 CAM0_DN0 (in), 139 GND hidden, 140 GND hidden, 141 CAM1_DP2 (in), 142 CAM0_CP (in), 143 CAM1_DN2 (in), 144 CAM0_CN (in), 145 GND hidden, 146 GND hidden, 147 CAM1_CP (in), 148 CAM0_DP1 (in), 149 CAM1_CN (in), 150 CAM0_DN1 (in), 151 GND hidden, 152 GND hidden, 153 CAM1_DP1 (in), 154 NC (in) hidden, 155 CAM1_DN1 (in), 156 NC (in) hidden, 157 GND hidden, 158 NC (in) hidden, 159 CAM1_DP0 (in), 160 NC (in) hidden, 161 CAM1_DN0 (in), 162 NC (in) hidden, 163 GND hidden, 164 GND hidden, 165 USB_DP (io), 166 TVDAC (out), 167 USB_DM (io), 168 USB_OTGID, 169 GND hidden, 170 GND hidden, 171 HDMI_CEC (io), 172 ~{{VC_TRST}} (in), 173 HDMI_SDA (io), 174 VC_TDI (in), 175 HDMI_SCL (io), 176 VC_TMS (in), 177 RUN (in), 178 VC_TDO (out), 179 VDD_CORE_(DO_NOT_CONNECT) (in) hidden, 180 VC_TCK (in), 181 GND hidden, 182 GND hidden, 183 1V8 hidden, 184 1V8 hidden, 185 1V8 hidden, 186 1V8 (power), 187 GND hidden, 188 GND hidden, 189 VDAC hidden, 190 VDAC (power), 191 3V3 hidden, 192 3V3 hidden, 193 3V3 hidden, 194 3V3 (power), 195 GND hidden, 196 GND (power), 197 VBAT hidden, 198 VBAT hidden, 199 VBAT hidden, 200 VBAT (power)

## RaspberryPi-CM3+L
designator *  value RaspberryPi-CM3+L
ki_keywords: raspberry pi compute module; ki_description: BCM2837B0 Broadcom 1.2 GHZ quad core, 1 GB RAM, industrial SoM computer; ki_fp_filters: *SODIMM*; Supplier: https://www.raspberrypi.org/documentation/hardware/computemodule/datasheets/rpi_DATA_CM3plus_1p0.pdf
pins: 1 GND hidden, 2 ~{{EMMC_DISABLE}} (in), 3 GPIO0 (io), 4 SDX_VDD hidden, 5 GPIO1 (io), 6 SDX_VDD (power), 7 GND hidden, 8 GND hidden, 9 GPIO2 (io), 10 SDX_CLK (out), 11 GPIO3 (io), 12 SDX_CMD (io), 13 GND hidden, 14 GND hidden, 15 GPIO4 (io), 16 SDX_D0 (io), 17 GPIO5 (io), 18 SDX_D1 (io), 19 GND hidden, 20 GND hidden, 21 GPIO6 (io), 22 SDX_D2 (io), 23 GPIO7 (io), 24 SDX_D3 (io), 25 GND hidden, 26 GND hidden, 27 GPIO8 (io), 28 GPIO28 (io), 29 GPIO9 (io), 30 GPIO29 (io), 31 GND hidden, 32 GND hidden, 33 GPIO10 (io), 34 GPIO30 (io), 35 GPIO11 (io), 36 GPIO31 (io), 37 GND hidden, 38 GND hidden, 39 GPIO0-27_VDD hidden, 40 GPIO0-27_VDD (power), 41 GPIO28-45_VDD hidden, 42 GPIO28-45_VDD (power), 43 GND hidden, 44 GND hidden, 45 GPIO12 (io), 46 GPIO32 (io), 47 GPIO13 (io), 48 GPIO33 (io), 49 GND hidden, 50 GND hidden, 51 GPIO14 (io), 52 GPIO34 (io), 53 GPIO15 (io), 54 GPIO35 (io), 55 GND hidden, 56 GND hidden, 57 GPIO16 (io), 58 GPIO36 (io), 59 GPIO17 (io), 60 GPIO37 (io), 61 GND hidden, 62 GND hidden, 63 GPIO18 (io), 64 GPIO38 (io), 65 GPIO19 (io), 66 GPIO39 (io), 67 GND hidden, 68 GND hidden, 69 GPIO20 (io), 70 GPIO40 (io), 71 GPIO21 (io), 72 GPIO41 (io), 73 GND hidden, 74 GND hidden, 75 GPIO22 (io), 76 GPIO42 (io), 77 GPIO23 (io), 78 GPIO43 (io), 79 GND hidden, 80 GND hidden, 81 GPIO24 (io), 82 GPIO44 (io), 83 GPIO25 (io), 84 GPIO45 (io), 85 GND hidden, 86 GND hidden, 87 GPIO26 (io), 88 HDMI_HPD_N_1V8 (in), 89 GPIO27 (io), 90 EMMC_EN_N_1V8 (out), 91 GND hidden, 92 GND hidden, 93 DSI0_DN1 (out), 94 DSI1_DP0 (out), 95 DSI0_DP1 (out), 96 DSI1_DN0 (out), 97 GND hidden, 98 GND hidden, 99 DSI0_DN0 (out), 100 DSI1_CP (out), 101 DSI0_DP0 (out), 102 DSI1_CN (out), 103 GND hidden, 104 GND hidden, 105 DSI0_CN (out), 106 DSI1_DP3 (out), 107 DSI0_CP (out), 108 DSI1_DN3 (out), 109 GND hidden, 110 GND hidden, 111 HDMI_CLK_N (out), 112 DSI1_DP2 (out), 113 HDMI_CLK_P (out), 114 DSI1_DN2 (out), 115 GND hidden, 116 GND hidden, 117 HDMI_D0_N (out), 118 DSI1_DP1 (out), 119 HDMI_D0_P (out), 120 DSI1_DN1 (out), 121 GND hidden, 122 GND hidden, 123 HDMI_D1_N (out), 124 NC (in) hidden, 125 HDMI_D1_P (out), 126 NC (in) hidden, 127 GND hidden, 128 NC (in) hidden, 129 HDMI_D2_N (out), 130 NC (in) hidden, 131 HDMI_D2_P (out), 132 NC (in) hidden, 133 GND hidden, 134 GND hidden, 135 CAM1_DP3 (in), 136 CAM0_DP0 (in), 137 CAM1_DN3 (in), 138 CAM0_DN0 (in), 139 GND hidden, 140 GND hidden, 141 CAM1_DP2 (in), 142 CAM0_CP (in), 143 CAM1_DN2 (in), 144 CAM0_CN (in), 145 GND hidden, 146 GND hidden, 147 CAM1_CP (in), 148 CAM0_DP1 (in), 149 CAM1_CN (in), 150 CAM0_DN1 (in), 151 GND hidden, 152 GND hidden, 153 CAM1_DP1 (in), 154 NC (in) hidden, 155 CAM1_DN1 (in), 156 NC (in) hidden, 157 GND hidden, 158 NC (in) hidden, 159 CAM1_DP0 (in), 160 NC (in) hidden, 161 CAM1_DN0 (in), 162 NC (in) hidden, 163 GND hidden, 164 GND hidden, 165 USB_DP (io), 166 TVDAC (out), 167 USB_DM (io), 168 USB_OTGID, 169 GND hidden, 170 GND hidden, 171 HDMI_CEC (io), 172 ~{{VC_TRST}} (in), 173 HDMI_SDA (io), 174 VC_TDI (in), 175 HDMI_SCL (io), 176 VC_TMS (in), 177 RUN (in), 178 VC_TDO (out), 179 VDD_CORE_(DO_NOT_CONNECT) (in) hidden, 180 VC_TCK (in), 181 GND hidden, 182 GND hidden, 183 1V8 hidden, 184 1V8 hidden, 185 1V8 hidden, 186 1V8 (power), 187 GND hidden, 188 GND hidden, 189 VDAC hidden, 190 VDAC (power), 191 3V3 hidden, 192 3V3 hidden, 193 3V3 hidden, 194 3V3 (power), 195 GND hidden, 196 GND (power), 197 VBAT hidden, 198 VBAT hidden, 199 VBAT hidden, 200 VBAT (power)

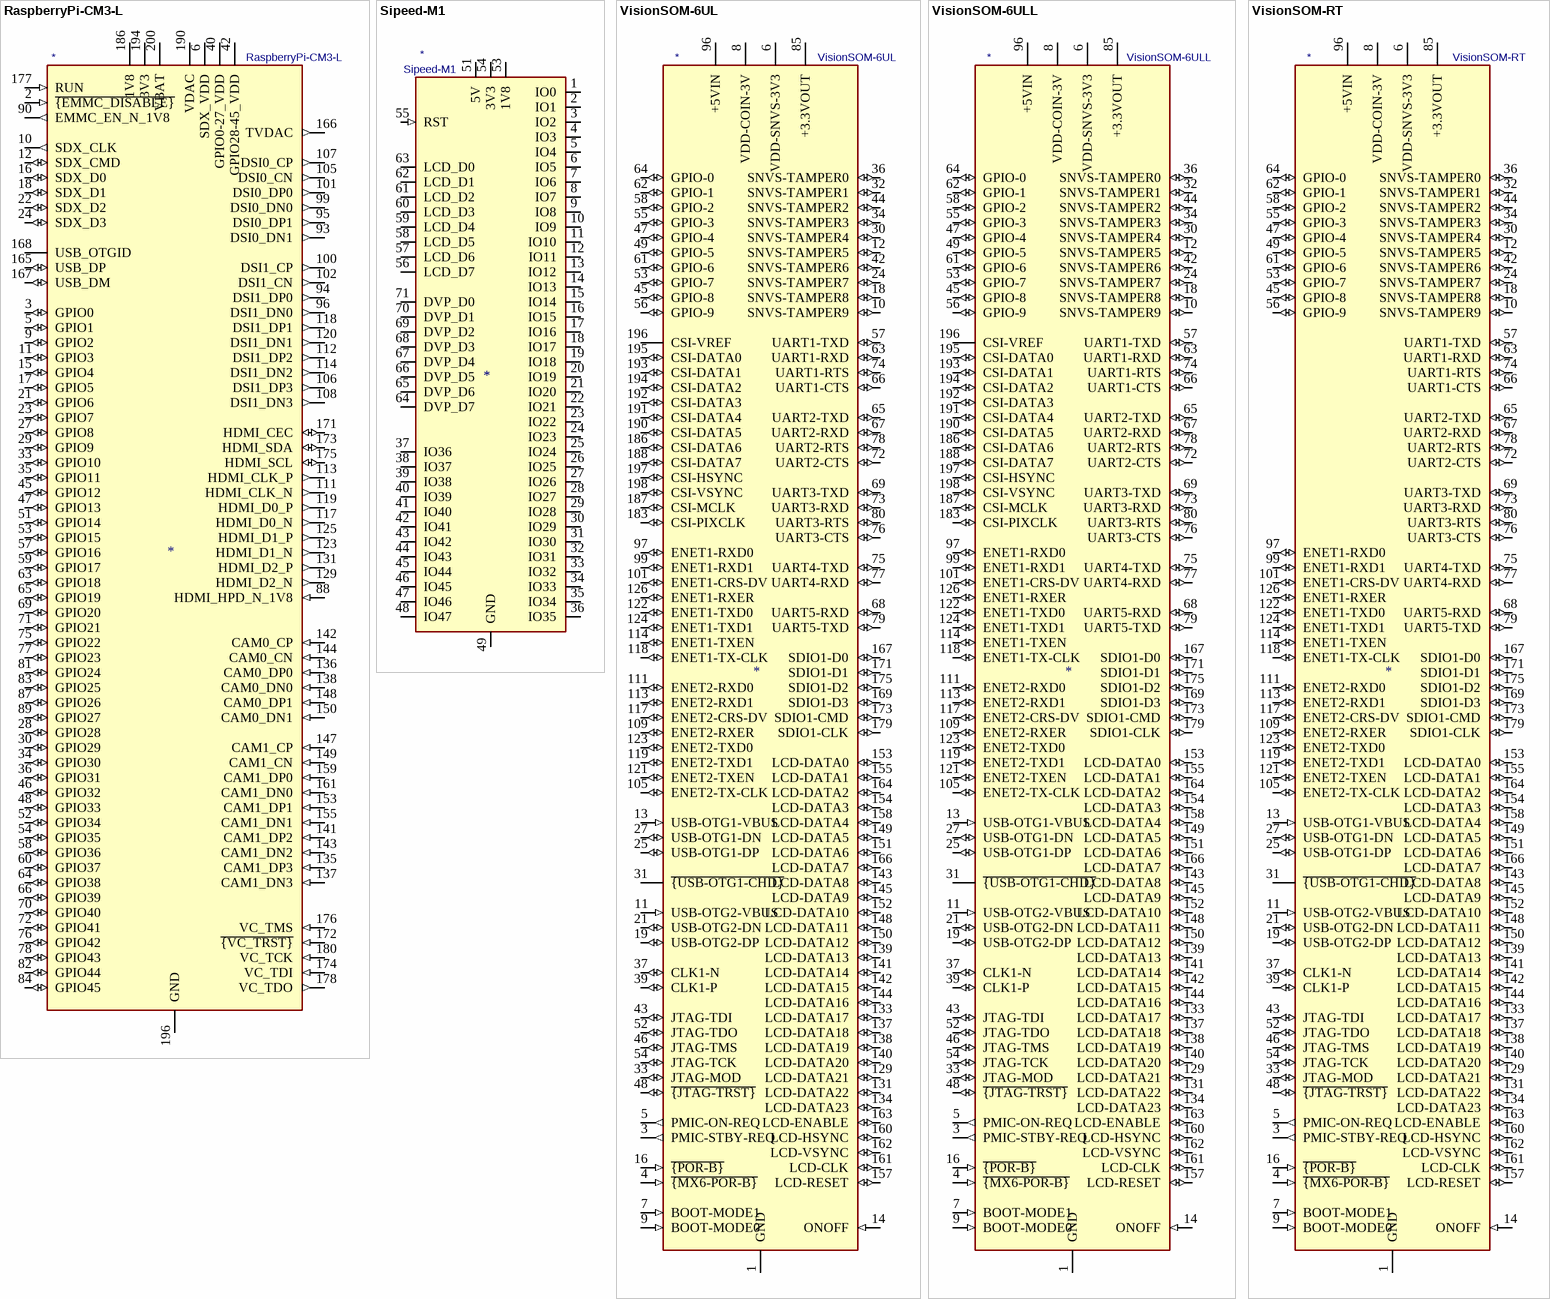
[diagram p8: symbols RaspberryPi-CM3-L to VisionSOM-RT]

## RaspberryPi-CM3-L
designator *  value RaspberryPi-CM3-L
ki_keywords: raspberry pi compute module; ki_description: BCM2837 Broadcom 1.2 GHZ quad core, 1 GB RAM, industrial SoM computer; ki_fp_filters: *SODIMM*; Supplier: https://www.raspberrypi.org/documentation/hardware/computemodule/datasheets/rpi_DATA_CM_1p0.pdf
pins: 1 GND hidden, 2 ~{{EMMC_DISABLE}} (in), 3 GPIO0 (io), 4 SDX_VDD hidden, 5 GPIO1 (io), 6 SDX_VDD (power), 7 GND hidden, 8 GND hidden, 9 GPIO2 (io), 10 SDX_CLK (out), 11 GPIO3 (io), 12 SDX_CMD (io), 13 GND hidden, 14 GND hidden, 15 GPIO4 (io), 16 SDX_D0 (io), 17 GPIO5 (io), 18 SDX_D1 (io), 19 GND hidden, 20 GND hidden, 21 GPIO6 (io), 22 SDX_D2 (io), 23 GPIO7 (io), 24 SDX_D3 (io), 25 GND hidden, 26 GND hidden, 27 GPIO8 (io), 28 GPIO28 (io), 29 GPIO9 (io), 30 GPIO29 (io), 31 GND hidden, 32 GND hidden, 33 GPIO10 (io), 34 GPIO30 (io), 35 GPIO11 (io), 36 GPIO31 (io), 37 GND hidden, 38 GND hidden, 39 GPIO0-27_VDD hidden, 40 GPIO0-27_VDD (power), 41 GPIO28-45_VDD hidden, 42 GPIO28-45_VDD (power), 43 GND hidden, 44 GND hidden, 45 GPIO12 (io), 46 GPIO32 (io), 47 GPIO13 (io), 48 GPIO33 (io), 49 GND hidden, 50 GND hidden, 51 GPIO14 (io), 52 GPIO34 (io), 53 GPIO15 (io), 54 GPIO35 (io), 55 GND hidden, 56 GND hidden, 57 GPIO16 (io), 58 GPIO36 (io), 59 GPIO17 (io), 60 GPIO37 (io), 61 GND hidden, 62 GND hidden, 63 GPIO18 (io), 64 GPIO38 (io), 65 GPIO19 (io), 66 GPIO39 (io), 67 GND hidden, 68 GND hidden, 69 GPIO20 (io), 70 GPIO40 (io), 71 GPIO21 (io), 72 GPIO41 (io), 73 GND hidden, 74 GND hidden, 75 GPIO22 (io), 76 GPIO42 (io), 77 GPIO23 (io), 78 GPIO43 (io), 79 GND hidden, 80 GND hidden, 81 GPIO24 (io), 82 GPIO44 (io), 83 GPIO25 (io), 84 GPIO45 (io), 85 GND hidden, 86 GND hidden, 87 GPIO26 (io), 88 HDMI_HPD_N_1V8 (in), 89 GPIO27 (io), 90 EMMC_EN_N_1V8 (out), 91 GND hidden, 92 GND hidden, 93 DSI0_DN1 (out), 94 DSI1_DP0 (out), 95 DSI0_DP1 (out), 96 DSI1_DN0 (out), 97 GND hidden, 98 GND hidden, 99 DSI0_DN0 (out), 100 DSI1_CP (out), 101 DSI0_DP0 (out), 102 DSI1_CN (out), 103 GND hidden, 104 GND hidden, 105 DSI0_CN (out), 106 DSI1_DP3 (out), 107 DSI0_CP (out), 108 DSI1_DN3 (out), 109 GND hidden, 110 GND hidden, 111 HDMI_CLK_N (out), 112 DSI1_DP2 (out), 113 HDMI_CLK_P (out), 114 DSI1_DN2 (out), 115 GND hidden, 116 GND hidden, 117 HDMI_D0_N (out), 118 DSI1_DP1 (out), 119 HDMI_D0_P (out), 120 DSI1_DN1 (out), 121 GND hidden, 122 GND hidden, 123 HDMI_D1_N (out), 124 NC (in) hidden, 125 HDMI_D1_P (out), 126 NC (in) hidden, 127 GND hidden, 128 NC (in) hidden, 129 HDMI_D2_N (out), 130 NC (in) hidden, 131 HDMI_D2_P (out), 132 NC (in) hidden, 133 GND hidden, 134 GND hidden, 135 CAM1_DP3 (in), 136 CAM0_DP0 (in), 137 CAM1_DN3 (in), 138 CAM0_DN0 (in), 139 GND hidden, 140 GND hidden, 141 CAM1_DP2 (in), 142 CAM0_CP (in), 143 CAM1_DN2 (in), 144 CAM0_CN (in), 145 GND hidden, 146 GND hidden, 147 CAM1_CP (in), 148 CAM0_DP1 (in), 149 CAM1_CN (in), 150 CAM0_DN1 (in), 151 GND hidden, 152 GND hidden, 153 CAM1_DP1 (in), 154 NC (in) hidden, 155 CAM1_DN1 (in), 156 NC (in) hidden, 157 GND hidden, 158 NC (in) hidden, 159 CAM1_DP0 (in), 160 NC (in) hidden, 161 CAM1_DN0 (in), 162 NC (in) hidden, 163 GND hidden, 164 GND hidden, 165 USB_DP (io), 166 TVDAC (out), 167 USB_DM (io), 168 USB_OTGID, 169 GND hidden, 170 GND hidden, 171 HDMI_CEC (io), 172 ~{{VC_TRST}} (in), 173 HDMI_SDA (io), 174 VC_TDI (in), 175 HDMI_SCL (io), 176 VC_TMS (in), 177 RUN (in), 178 VC_TDO (out), 179 VDD_CORE_(DO_NOT_CONNECT) (in) hidden, 180 VC_TCK (in), 181 GND hidden, 182 GND hidden, 183 1V8 hidden, 184 1V8 hidden, 185 1V8 hidden, 186 1V8 (power), 187 GND hidden, 188 GND hidden, 189 VDAC hidden, 190 VDAC (power), 191 3V3 hidden, 192 3V3 hidden, 193 3V3 hidden, 194 3V3 (power), 195 GND hidden, 196 GND (power), 197 VBAT hidden, 198 VBAT hidden, 199 VBAT hidden, 200 VBAT (power)

## Sipeed-M1
designator *  value Sipeed-M1
ki_keywords: AI Kendryte K210 RISC-V; ki_description: AI accelerated RISC-V microcontroller; ki_fp_filters: Sipeed*M1*; Footprint: Module:Sipeed-M1; Supplier: https://dl.sipeed.com/MAIX/HDK/Sipeed-M1&M1W/Specifications
footprint Sipeed-M1
pins: 1 IO0 (io), 2 IO1 (io), 3 IO2 (io), 4 IO3 (io), 5 IO4 (io), 6 IO5 (io), 7 IO6 (io), 8 IO7 (io), 9 IO8 (io), 10 IO9 (io), 11 IO10 (io), 12 IO11 (io), 13 IO12 (io), 14 IO13 (io), 15 IO14 (io), 16 IO15 (io), 17 IO16 (io), 18 IO17 (io), 19 IO18 (io), 20 IO19 (io), 21 IO20 (io), 22 IO21 (io), 23 IO22 (io), 24 IO23 (io), 25 IO24 (io), 26 IO25 (io), 27 IO26 (io), 28 IO27 (io), 29 IO28 (io), 30 IO29 (io), 31 IO30 (io), 32 IO31 (io), 33 IO32 (io), 34 IO33 (io), 35 IO34 (io), 36 IO35 (io), 37 IO36 (io), 38 IO37 (io), 39 IO38 (io), 40 IO39 (io), 41 IO40 (io), 42 IO41 (io), 43 IO42 (io), 44 IO43 (io), 45 IO44 (io), 46 IO45 (io), 47 IO46 (io), 48 IO47 (io), 49 GND (power), 50 GND hidden, 51 5V (power), 52 5V hidden, 53 1V8 (power), 54 3V3 (power), 55 RST (in), 56 LCD_D7 (io), 57 LCD_D6 (io), 58 LCD_D5 (io), 59 LCD_D4 (io), 60 LCD_D3 (io), 61 LCD_D2 (io), 62 LCD_D1 (io), 63 LCD_D0 (io), 64 DVP_D7 (io), 65 DVP_D6 (io), 66 DVP_D5 (io), 67 DVP_D4 (io), 68 DVP_D3 (io), 69 DVP_D2 (io), 70 DVP_D1 (io), 71 DVP_D0 (io), 72 GND hidden, 73 GND hidden, 74 GND hidden, 75 GND hidden, 76 GND hidden, 77 GND hidden

## VisionSOM-6UL
designator *  value VisionSOM-6UL
ki_keywords: somlabs module; ki_description: i.MX6-UL NXP ARM Cortex-A7 696MHz single core industrial SoM computer; ki_fp_filters: *SODIMM*; Supplier: https://wiki.somlabs.com/extensions/JZPDFGen/pdf/VisionSOM-6UL%20Datasheet%20and%20Pinout-41.pdf
pins: 1 GND (power), 2 GND hidden, 3 PMIC-STBY-REQ (out), 4 ~{{MX6-POR-B}} (in), 5 PMIC-ON-REQ (out), 6 VDD-SNVS-3V3 (power), 7 BOOT-MODE1 (in), 8 VDD-COIN-3V (power), 9 BOOT-MODE0 (in), 10 SNVS-TAMPER9 (io), 11 USB-OTG2-VBUS (in), 12 SNVS-TAMPER5 (io), 13 USB-OTG1-VBUS (in), 14 ONOFF (in), 15 GND hidden, 16 ~{{POR-B}} (in), 17 GND hidden, 18 SNVS-TAMPER8 (io), 19 USB-OTG2-DP (io), 20 GND hidden, 21 USB-OTG2-DN (io), 22 GND hidden, 23 GND hidden, 24 SNVS-TAMPER7 (io), 25 USB-OTG1-DP (io), 26 GND hidden, 27 USB-OTG1-DN (io), 28 GND hidden, 29 GND hidden, 30 SNVS-TAMPER4 (io), 31 ~{{USB-OTG1-CHD}} (oc), 32 SNVS-TAMPER1 (io), 33 JTAG-MOD (io), 34 SNVS-TAMPER3 (io), 35 GND hidden, 36 SNVS-TAMPER0 (io), 37 CLK1-N (io), 38 GND hidden, 39 CLK1-P (io), 40 GND hidden, 41 GND hidden, 42 SNVS-TAMPER6 (io), 43 JTAG-TDI (io), 44 SNVS-TAMPER2 (io), 45 GPIO-8 (io), 46 JTAG-TMS (io), 47 GPIO-4 (io), 48 ~{{JTAG-TRST}} (io), 49 GPIO-5 (io), 50 GND hidden, 51 GND hidden, 52 JTAG-TDO (io), 53 GPIO-7 (io), 54 JTAG-TCK (io), 55 GPIO-3 (io), 56 GPIO-9 (io), 57 UART1-TXD (io), 58 GPIO-2 (io), 59 GND hidden, 60 GND hidden, 61 GPIO-6 (io), 62 GPIO-1 (io), 63 UART1-RXD (io), 64 GPIO-0 (io), 65 UART2-TXD (io), 66 UART1-CTS (io), 67 UART2-RXD (io), 68 UART5-RXD (io), 69 UART3-TXD (io), 70 GND hidden, 71 GND hidden, 72 UART2-CTS (io), 73 UART3-RXD (io), 74 UART1-RTS (io), 75 UART4-TXD (io), 76 UART3-CTS (io), 77 UART4-RXD (io), 78 UART2-RTS (io), 79 UART5-TXD (io), 80 UART3-RTS (io), 81 GND hidden, 82 GND hidden, 83 NC (in) hidden, 84 GND hidden, 85 +3.3VOUT (power), 86 NC (in) hidden, 87 +3.3VOUT hidden, 88 +3.3VOUT hidden, 89 +3.3VOUT hidden, 90 +3.3VOUT hidden, 91 +3.3VOUT hidden, 92 +3.3VOUT hidden, 93 +3.3VOUT hidden, 94 NC (in) hidden, 95 NC (in) hidden, 96 +5VIN (power), 97 ENET1-RXD0 (io), 98 +5VIN hidden, 99 ENET1-RXD1 (io), 100 +5VIN hidden, 101 ENET1-CRS-DV (io), 102 +5VIN hidden, 103 GND hidden, 104 +5VIN hidden, 105 ENET2-TX-CLK (io), 106 +5VIN hidden, 107 GND hidden, 108 +5VIN hidden, 109 ENET2-RXER (io), 110 +5VIN hidden, 111 ENET2-RXD0 (io), 112 +5VIN hidden, 113 ENET2-RXD1 (io), 114 ENET1-TXEN (io), 115 GND hidden, 116 GND hidden, 117 ENET2-CRS-DV (io), 118 ENET1-TX-CLK (io), 119 ENET2-TXD1 (io), 120 GND hidden, 121 ENET2-TXEN (io), 122 ENET1-TXD0 (io), 123 ENET2-TXD0 (io), 124 ENET1-TXD1 (io), 125 GND hidden, 126 ENET1-RXER (io), 127 GND hidden, 128 GND hidden, 129 LCD-DATA21 (io), 130 GND hidden, 131 LCD-DATA22 (io), 132 GND hidden, 133 LCD-DATA17 (io), 134 LCD-DATA23 (io), 135 GND hidden, 136 GND hidden, 137 LCD-DATA18 (io), 138 LCD-DATA19 (io), 139 LCD-DATA13 (io), 140 LCD-DATA20 (io), 141 LCD-DATA14 (io), 142 LCD-DATA15 (io), 143 LCD-DATA8 (io), 144 LCD-DATA16 (io), 145 LCD-DATA9 (io), 146 GND hidden, 147 GND hidden, 148 LCD-DATA11 (io), 149 LCD-DATA5 (io), 150 LCD-DATA12 (io), 151 LCD-DATA6 (io), 152 LCD-DATA10 (io), 153 LCD-DATA0 (io), 154 LCD-DATA3 (io), 155 LCD-DATA1 (io), 156 GND hidden, 157 LCD-RESET (io), 158 LCD-DATA4 (io), 159 GND hidden, 160 LCD-HSYNC (io), 161 LCD-CLK (io), 162 LCD-VSYNC (io), 163 LCD-ENABLE (io), 164 LCD-DATA2 (io), 165 GND hidden, 166 LCD-DATA7 (io), 167 SDIO1-D0 (io), 168 GND hidden, 169 SDIO1-D3 (io), 170 GND hidden, 171 SDIO1-D1 (io), 172 GND hidden, 173 SDIO1-CMD (io), 174 GND hidden, 175 SDIO1-D2 (io), 176 GND hidden, 177 GND hidden, 178 GND hidden, 179 SDIO1-CLK (io), 180 GND hidden, 181 GND hidden, 182 GND hidden, 183 CSI-PIXCLK (io), 184 GND hidden, 185 GND hidden, 186 CSI-DATA6 (io), 187 CSI-MCLK (io), 188 CSI-DATA7 (io), 189 GND hidden, 190 CSI-DATA5 (io), 191 CSI-DATA4 (io), 192 CSI-DATA3 (io), 193 CSI-DATA1 (io), 194 CSI-DATA2 (io), 195 CSI-DATA0 (io), 196 CSI-VREF, 197 CSI-HSYNC (io), 198 CSI-VSYNC (io), 199 GND hidden, 200 GND hidden

## VisionSOM-6ULL
designator *  value VisionSOM-6ULL
ki_keywords: somlabs module; ki_description: i.MX6-ULL NXP ARM Cortex-A7 900MHz single core industrial SoM computer; ki_fp_filters: *SODIMM*; Supplier: https://wiki.somlabs.com/extensions/JZPDFGen/pdf/VisionSOM-6ULL%20Datasheet%20and%20Pinout-21.pdf
pins: 1 GND (power), 2 GND hidden, 3 PMIC-STBY-REQ (out), 4 ~{{MX6-POR-B}} (in), 5 PMIC-ON-REQ (out), 6 VDD-SNVS-3V3 (power), 7 BOOT-MODE1 (in), 8 VDD-COIN-3V (power), 9 BOOT-MODE0 (in), 10 SNVS-TAMPER9 (io), 11 USB-OTG2-VBUS (in), 12 SNVS-TAMPER5 (io), 13 USB-OTG1-VBUS (in), 14 ONOFF (in), 15 GND hidden, 16 ~{{POR-B}} (in), 17 GND hidden, 18 SNVS-TAMPER8 (io), 19 USB-OTG2-DP (io), 20 GND hidden, 21 USB-OTG2-DN (io), 22 GND hidden, 23 GND hidden, 24 SNVS-TAMPER7 (io), 25 USB-OTG1-DP (io), 26 GND hidden, 27 USB-OTG1-DN (io), 28 GND hidden, 29 GND hidden, 30 SNVS-TAMPER4 (io), 31 ~{{USB-OTG1-CHD}} (oc), 32 SNVS-TAMPER1 (io), 33 JTAG-MOD (io), 34 SNVS-TAMPER3 (io), 35 GND hidden, 36 SNVS-TAMPER0 (io), 37 CLK1-N (io), 38 GND hidden, 39 CLK1-P (io), 40 GND hidden, 41 GND hidden, 42 SNVS-TAMPER6 (io), 43 JTAG-TDI (io), 44 SNVS-TAMPER2 (io), 45 GPIO-8 (io), 46 JTAG-TMS (io), 47 GPIO-4 (io), 48 ~{{JTAG-TRST}} (io), 49 GPIO-5 (io), 50 GND hidden, 51 GND hidden, 52 JTAG-TDO (io), 53 GPIO-7 (io), 54 JTAG-TCK (io), 55 GPIO-3 (io), 56 GPIO-9 (io), 57 UART1-TXD (io), 58 GPIO-2 (io), 59 GND hidden, 60 GND hidden, 61 GPIO-6 (io), 62 GPIO-1 (io), 63 UART1-RXD (io), 64 GPIO-0 (io), 65 UART2-TXD (io), 66 UART1-CTS (io), 67 UART2-RXD (io), 68 UART5-RXD (io), 69 UART3-TXD (io), 70 GND hidden, 71 GND hidden, 72 UART2-CTS (io), 73 UART3-RXD (io), 74 UART1-RTS (io), 75 UART4-TXD (io), 76 UART3-CTS (io), 77 UART4-RXD (io), 78 UART2-RTS (io), 79 UART5-TXD (io), 80 UART3-RTS (io), 81 GND hidden, 82 GND hidden, 83 NC (in) hidden, 84 GND hidden, 85 +3.3VOUT (power), 86 NC (in) hidden, 87 +3.3VOUT hidden, 88 +3.3VOUT hidden, 89 +3.3VOUT hidden, 90 +3.3VOUT hidden, 91 +3.3VOUT hidden, 92 +3.3VOUT hidden, 93 +3.3VOUT hidden, 94 NC (in) hidden, 95 NC (in) hidden, 96 +5VIN (power), 97 ENET1-RXD0 (io), 98 +5VIN hidden, 99 ENET1-RXD1 (io), 100 +5VIN hidden, 101 ENET1-CRS-DV (io), 102 +5VIN hidden, 103 GND hidden, 104 +5VIN hidden, 105 ENET2-TX-CLK (io), 106 +5VIN hidden, 107 GND hidden, 108 +5VIN hidden, 109 ENET2-RXER (io), 110 +5VIN hidden, 111 ENET2-RXD0 (io), 112 +5VIN hidden, 113 ENET2-RXD1 (io), 114 ENET1-TXEN (io), 115 GND hidden, 116 GND hidden, 117 ENET2-CRS-DV (io), 118 ENET1-TX-CLK (io), 119 ENET2-TXD1 (io), 120 GND hidden, 121 ENET2-TXEN (io), 122 ENET1-TXD0 (io), 123 ENET2-TXD0 (io), 124 ENET1-TXD1 (io), 125 GND hidden, 126 ENET1-RXER (io), 127 GND hidden, 128 GND hidden, 129 LCD-DATA21 (io), 130 GND hidden, 131 LCD-DATA22 (io), 132 GND hidden, 133 LCD-DATA17 (io), 134 LCD-DATA23 (io), 135 GND hidden, 136 GND hidden, 137 LCD-DATA18 (io), 138 LCD-DATA19 (io), 139 LCD-DATA13 (io), 140 LCD-DATA20 (io), 141 LCD-DATA14 (io), 142 LCD-DATA15 (io), 143 LCD-DATA8 (io), 144 LCD-DATA16 (io), 145 LCD-DATA9 (io), 146 GND hidden, 147 GND hidden, 148 LCD-DATA11 (io), 149 LCD-DATA5 (io), 150 LCD-DATA12 (io), 151 LCD-DATA6 (io), 152 LCD-DATA10 (io), 153 LCD-DATA0 (io), 154 LCD-DATA3 (io), 155 LCD-DATA1 (io), 156 GND hidden, 157 LCD-RESET (io), 158 LCD-DATA4 (io), 159 GND hidden, 160 LCD-HSYNC (io), 161 LCD-CLK (io), 162 LCD-VSYNC (io), 163 LCD-ENABLE (io), 164 LCD-DATA2 (io), 165 GND hidden, 166 LCD-DATA7 (io), 167 SDIO1-D0 (io), 168 GND hidden, 169 SDIO1-D3 (io), 170 GND hidden, 171 SDIO1-D1 (io), 172 GND hidden, 173 SDIO1-CMD (io), 174 GND hidden, 175 SDIO1-D2 (io), 176 GND hidden, 177 GND hidden, 178 GND hidden, 179 SDIO1-CLK (io), 180 GND hidden, 181 GND hidden, 182 GND hidden, 183 CSI-PIXCLK (io), 184 GND hidden, 185 GND hidden, 186 CSI-DATA6 (io), 187 CSI-MCLK (io), 188 CSI-DATA7 (io), 189 GND hidden, 190 CSI-DATA5 (io), 191 CSI-DATA4 (io), 192 CSI-DATA3 (io), 193 CSI-DATA1 (io), 194 CSI-DATA2 (io), 195 CSI-DATA0 (io), 196 CSI-VREF, 197 CSI-HSYNC (io), 198 CSI-VSYNC (io), 199 GND hidden, 200 GND hidden

## VisionSOM-RT
designator *  value VisionSOM-RT
ki_keywords: somlabs module; ki_description: i.MX-RT NXP ARM Cortex-M7 528MHz single core industrial SoM computer; ki_fp_filters: *SODIMM*; Supplier: https://wiki.somlabs.com/index.php/VisionSOM-RT_Datasheet_and_Pinout
pins: 1 GND (power), 2 GND hidden, 3 PMIC-STBY-REQ (out), 4 ~{{MX6-POR-B}} (in), 5 PMIC-ON-REQ (out), 6 VDD-SNVS-3V3 (power), 7 BOOT-MODE1 (in), 8 VDD-COIN-3V (power), 9 BOOT-MODE0 (in), 10 SNVS-TAMPER9 (io), 11 USB-OTG2-VBUS (in), 12 SNVS-TAMPER5 (io), 13 USB-OTG1-VBUS (in), 14 ONOFF (in), 15 GND hidden, 16 ~{{POR-B}} (in), 17 GND hidden, 18 SNVS-TAMPER8 (io), 19 USB-OTG2-DP (io), 20 GND hidden, 21 USB-OTG2-DN (io), 22 GND hidden, 23 GND hidden, 24 SNVS-TAMPER7 (io), 25 USB-OTG1-DP (io), 26 GND hidden, 27 USB-OTG1-DN (io), 28 GND hidden, 29 GND hidden, 30 SNVS-TAMPER4 (io), 31 ~{{USB-OTG1-CHD}} (oc), 32 SNVS-TAMPER1 (io), 33 JTAG-MOD (io), 34 SNVS-TAMPER3 (io), 35 GND hidden, 36 SNVS-TAMPER0 (io), 37 CLK1-N (io), 38 GND hidden, 39 CLK1-P (io), 40 GND hidden, 41 GND hidden, 42 SNVS-TAMPER6 (io), 43 JTAG-TDI (io), 44 SNVS-TAMPER2 (io), 45 GPIO-8 (io), 46 JTAG-TMS (io), 47 GPIO-4 (io), 48 ~{{JTAG-TRST}} (io), 49 GPIO-5 (io), 50 GND hidden, 51 GND hidden, 52 JTAG-TDO (io), 53 GPIO-7 (io), 54 JTAG-TCK (io), 55 GPIO-3 (io), 56 GPIO-9 (io), 57 UART1-TXD (io), 58 GPIO-2 (io), 59 GND hidden, 60 GND hidden, 61 GPIO-6 (io), 62 GPIO-1 (io), 63 UART1-RXD (io), 64 GPIO-0 (io), 65 UART2-TXD (io), 66 UART1-CTS (io), 67 UART2-RXD (io), 68 UART5-RXD (io), 69 UART3-TXD (io), 70 GND hidden, 71 GND hidden, 72 UART2-CTS (io), 73 UART3-RXD (io), 74 UART1-RTS (io), 75 UART4-TXD (io), 76 UART3-CTS (io), 77 UART4-RXD (io), 78 UART2-RTS (io), 79 UART5-TXD (io), 80 UART3-RTS (io), 81 GND hidden, 82 GND hidden, 83 NC (in) hidden, 84 GND hidden, 85 +3.3VOUT (power), 86 NC (in) hidden, 87 +3.3VOUT hidden, 88 +3.3VOUT hidden, 89 +3.3VOUT hidden, 90 +3.3VOUT hidden, 91 +3.3VOUT hidden, 92 +3.3VOUT hidden, 93 +3.3VOUT hidden, 94 NC (in) hidden, 95 NC (in) hidden, 96 +5VIN (power), 97 ENET1-RXD0 (io), 98 +5VIN hidden, 99 ENET1-RXD1 (io), 100 +5VIN hidden, 101 ENET1-CRS-DV (io), 102 +5VIN hidden, 103 GND hidden, 104 +5VIN hidden, 105 ENET2-TX-CLK (io), 106 +5VIN hidden, 107 GND hidden, 108 +5VIN hidden, 109 ENET2-RXER (io), 110 +5VIN hidden, 111 ENET2-RXD0 (io), 112 +5VIN hidden, 113 ENET2-RXD1 (io), 114 ENET1-TXEN (io), 115 GND hidden, 116 GND hidden, 117 ENET2-CRS-DV (io), 118 ENET1-TX-CLK (io), 119 ENET2-TXD1 (io), 120 GND hidden, 121 ENET2-TXEN (io), 122 ENET1-TXD0 (io), 123 ENET2-TXD0 (io), 124 ENET1-TXD1 (io), 125 GND hidden, 126 ENET1-RXER (io), 127 GND hidden, 128 GND hidden, 129 LCD-DATA21 (io), 130 GND hidden, 131 LCD-DATA22 (io), 132 GND hidden, 133 LCD-DATA17 (io), 134 LCD-DATA23 (io), 135 GND hidden, 136 GND hidden, 137 LCD-DATA18 (io), 138 LCD-DATA19 (io), 139 LCD-DATA13 (io), 140 LCD-DATA20 (io), 141 LCD-DATA14 (io), 142 LCD-DATA15 (io), 143 LCD-DATA8 (io), 144 LCD-DATA16 (io), 145 LCD-DATA9 (io), 146 GND hidden, 147 GND hidden, 148 LCD-DATA11 (io), 149 LCD-DATA5 (io), 150 LCD-DATA12 (io), 151 LCD-DATA6 (io), 152 LCD-DATA10 (io), 153 LCD-DATA0 (io), 154 LCD-DATA3 (io), 155 LCD-DATA1 (io), 156 GND hidden, 157 LCD-RESET (io), 158 LCD-DATA4 (io), 159 GND hidden, 160 LCD-HSYNC (io), 161 LCD-CLK (io), 162 LCD-VSYNC (io), 163 LCD-ENABLE (io), 164 LCD-DATA2 (io), 165 GND hidden, 166 LCD-DATA7 (io), 167 SDIO1-D0 (io), 168 GND hidden, 169 SDIO1-D3 (io), 170 GND hidden, 171 SDIO1-D1 (io), 172 GND hidden, 173 SDIO1-CMD (io), 174 GND hidden, 175 SDIO1-D2 (io), 176 NC (in) hidden, 177 GND hidden, 178 NC (in) hidden, 179 SDIO1-CLK (io), 180 NC (in) hidden, 181 GND hidden, 182 NC (in) hidden, 183 NC (in) hidden, 184 GND hidden, 185 GND hidden, 186 NC (in) hidden, 187 NC (in) hidden, 188 NC (in) hidden, 189 GND hidden, 190 NC (in) hidden, 191 NC (in) hidden, 192 NC (in) hidden, 193 NC (in) hidden, 194 NC (in) hidden, 195 NC (in) hidden, 196 NC (in) hidden, 197 NC (in) hidden, 198 NC (in) hidden, 199 GND hidden, 200 GND hidden

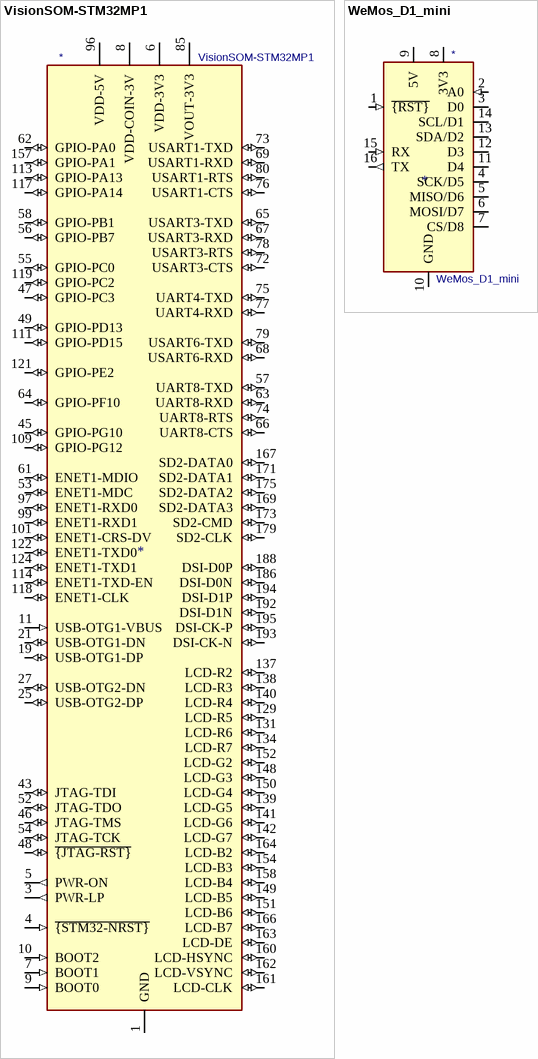
[diagram p9: symbols VisionSOM-STM32MP1 to WeMos_D1_mini]